# Altium integrated library adafruit.Library.IntLib: 666 symbols (part 5 of 6)
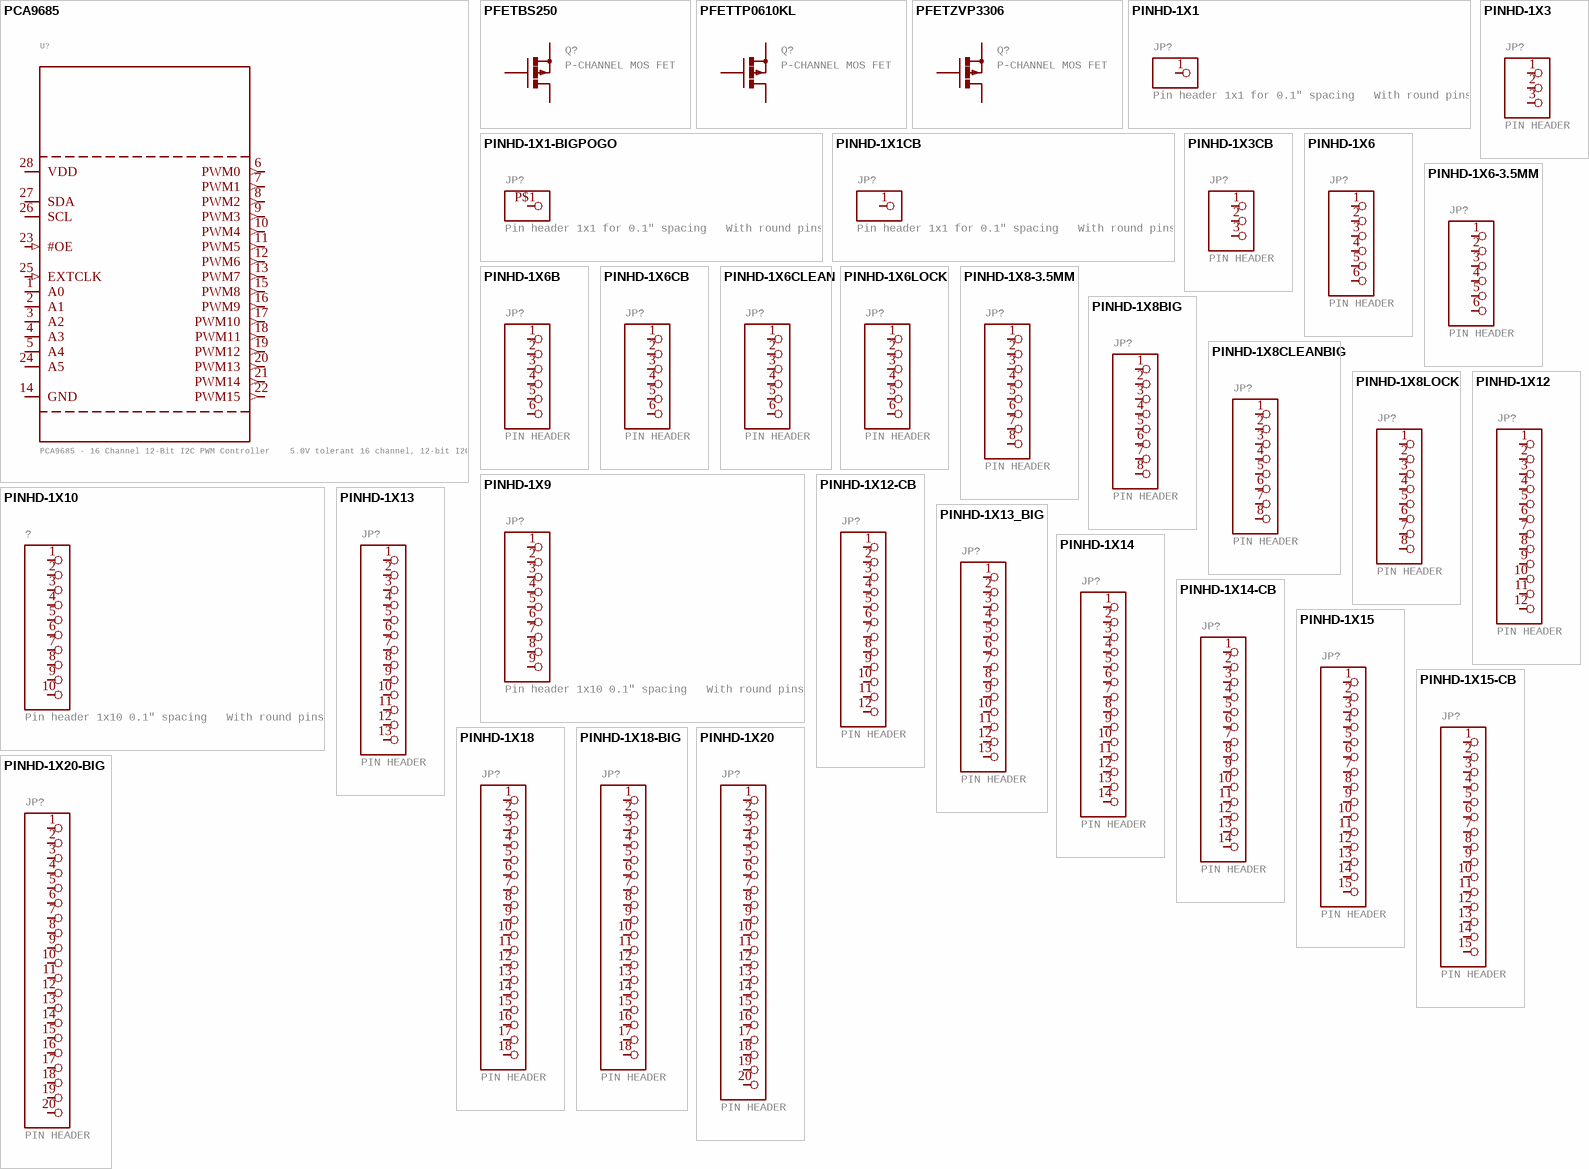
[diagram p31: symbols PCA9685 to PINHD-1X20-BIG]

## PINHD-1X13
designator JP?, comment PIN HEADER
GateName_1: A; SymbolName_1: PINHD13; DeviceSetName: PINHD-1X13; LibraryName: adafruit; Package: 1X13
footprint 1X13
pins: 1, 2, 3, 4, 5, 6, 7, 8, 9, 10, 11, 12, 13

## PINHD-1X13_BIG
designator JP?, comment PIN HEADER
GateName_1: A; SymbolName_1: PINHD13; DeviceName: _BIG; DeviceSetName: PINHD-1X13; LibraryName: adafruit; Package: 1X13-BIG
footprint 1X13-BIG
pins: 1, 2, 3, 4, 5, 6, 7, 8, 9, 10, 11, 12, 13

## PINHD-1X14
designator JP?, comment PIN HEADER
GateName_1: A; SymbolName_1: PINHD14; DeviceSetName: PINHD-1X14; LibraryName: adafruit; Package: 1X14
footprint 1X14
pins: 1, 2, 3, 4, 5, 6, 7, 8, 9, 10, 11, 12, 13, 14

## PINHD-1X14-CB
designator JP?, comment PIN HEADER
GateName_1: A; SymbolName_1: PINHD14; DeviceName: -CB; DeviceSetName: PINHD-1X14; LibraryName: adafruit; Package: 1X14-CB
footprint 1X14-CB
pins: 1, 2, 3, 4, 5, 6, 7, 8, 9, 10, 11, 12, 13, 14

## PINHD-1X15
designator JP?, comment PIN HEADER
GateName_1: A; SymbolName_1: PINHD15; DeviceSetName: PINHD-1X15; LibraryName: adafruit; Package: 1X15
footprint 1X15
pins: 1, 2, 3, 4, 5, 6, 7, 8, 9, 10, 11, 12, 13, 14, 15

## PINHD-1X15-CB
designator JP?, comment PIN HEADER
GateName_1: A; SymbolName_1: PINHD15; DeviceName: -CB; DeviceSetName: PINHD-1X15; LibraryName: adafruit; Package: 1X15-CB
footprint 1X15-CB
pins: 1, 2, 3, 4, 5, 6, 7, 8, 9, 10, 11, 12, 13, 14, 15

## PINHD-1X18
designator JP?, comment PIN HEADER
GateName_1: A; SymbolName_1: PINHD18; DeviceSetName: PINHD-1X18; LibraryName: adafruit; Package: 1X18
footprint 1X18
pins: 1, 2, 3, 4, 5, 6, 7, 8, 9, 10, 11, 12, 13, 14, 15, 16, 17, 18

## PINHD-1X18-BIG
designator JP?, comment PIN HEADER
GateName_1: A; SymbolName_1: PINHD18; DeviceName: -BIG; DeviceSetName: PINHD-1X18; LibraryName: adafruit; Package: 1X18-BIG
footprint 1X18-BIG
pins: 1, 2, 3, 4, 5, 6, 7, 8, 9, 10, 11, 12, 13, 14, 15, 16, 17, 18

## PINHD-1X20
designator JP?, comment PIN HEADER
GateName_1: A; SymbolName_1: PINHD20; DeviceSetName: PINHD-1X20; LibraryName: adafruit; Package: 1X20
footprint 1X20
pins: 1, 2, 3, 4, 5, 6, 7, 8, 9, 10, 11, 12, 13, 14, 15, 16, 17, 18, 19, 20

## PINHD-1X20-BIG
designator JP?, comment PIN HEADER
GateName_1: A; SymbolName_1: PINHD20; DeviceName: -BIG; DeviceSetName: PINHD-1X20; LibraryName: adafruit; Package: 1X20-BIG
footprint 1X20-BIG
pins: 1, 2, 3, 4, 5, 6, 7, 8, 9, 10, 11, 12, 13, 14, 15, 16, 17, 18, 19, 20

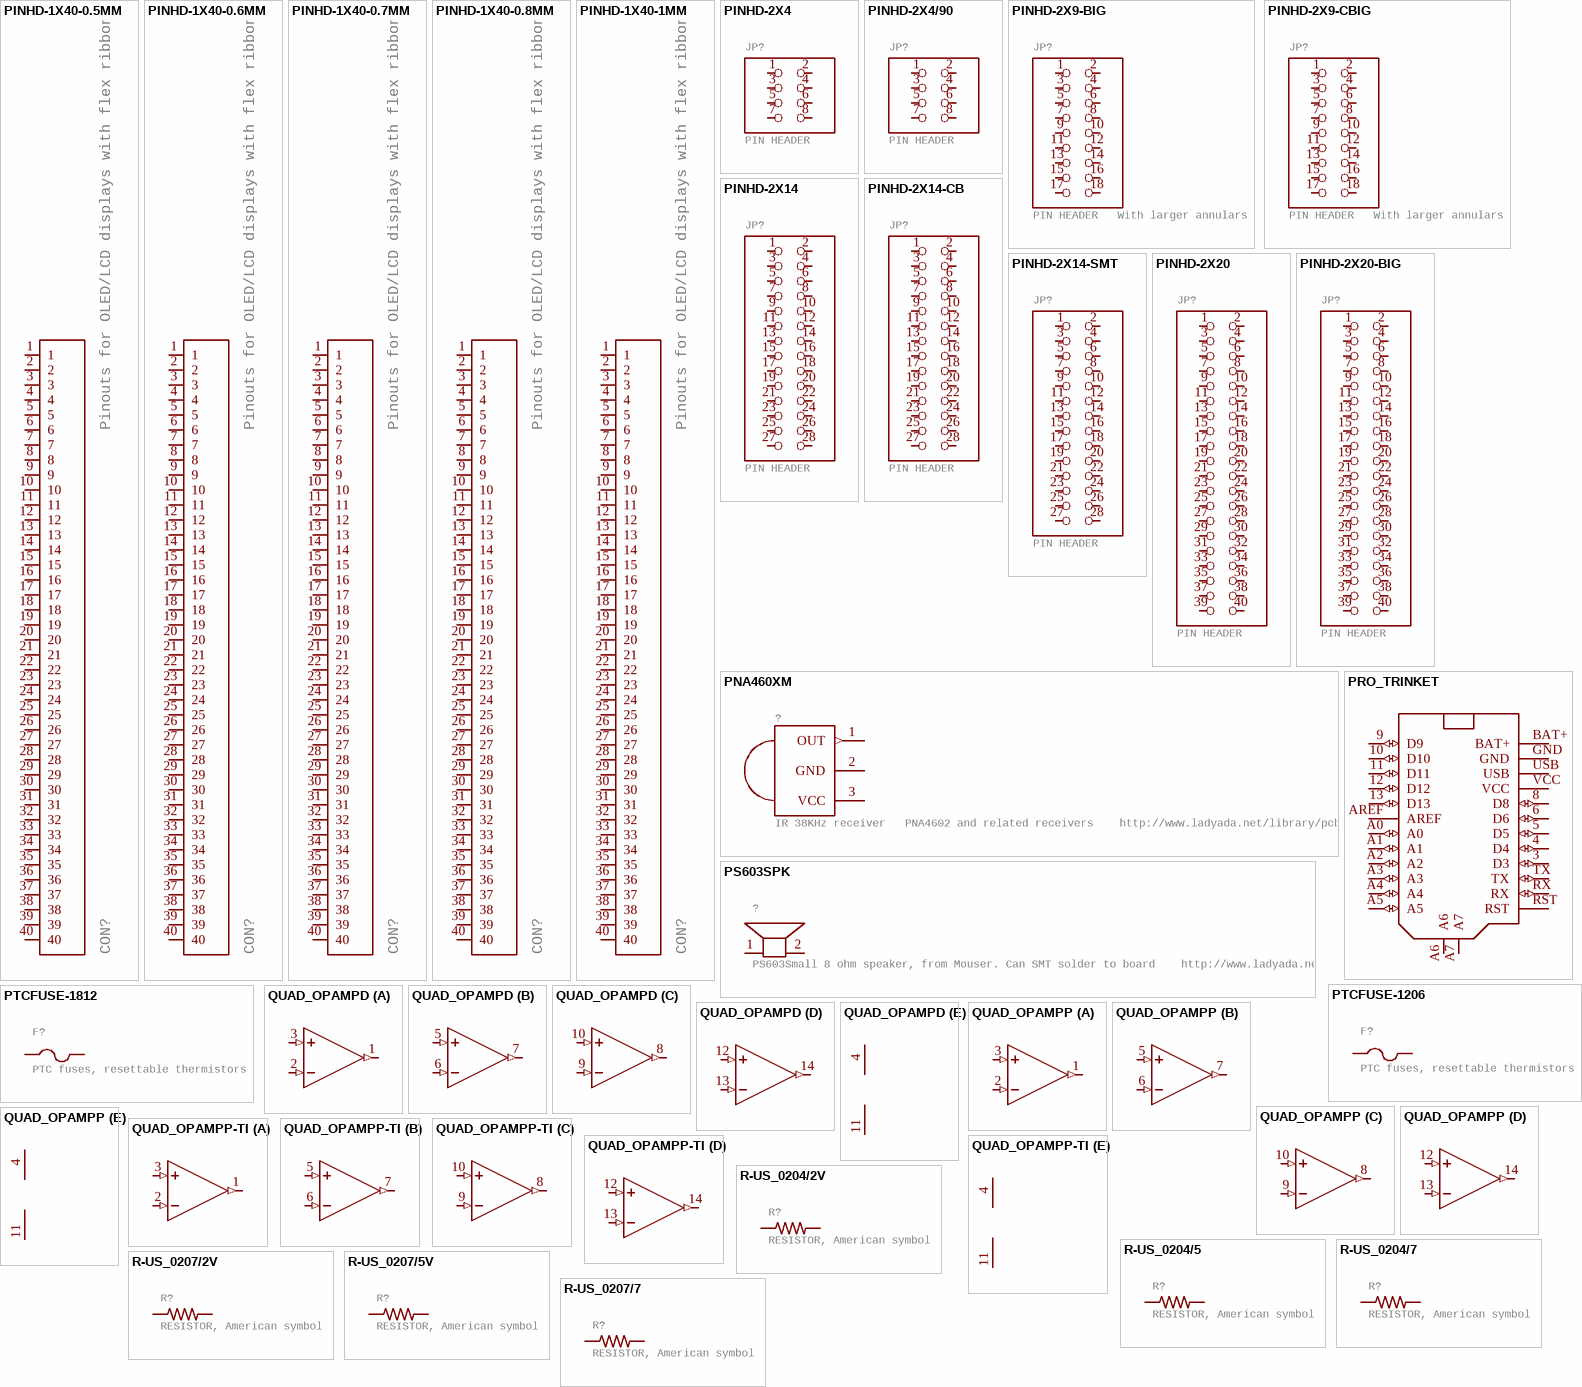
[diagram p21: symbols PINHD-1X40-0.5MM to R-US_0207/7]

## PINHD-1X40-0.5MM
designator CON?, comment Pinouts for OLED/LCD displays with flex ribbons
GateName_1: G$1; SymbolName_1: PINHD-1X40; DeviceName: -0.5MM; LibraryName: adafruit; DeviceSetName: PINHD-1X40; Package: 1X40-0.5MM
footprint 1X40-0.5MM
pins: 1 (io), 2 (io), 3 (io), 4 (io), 5 (io), 6 (io), 7 (io), 8 (io), 9 (io), 10 (io), 11 (io), 12 (io), 13 (io), 14 (io), 15 (io), 16 (io), 17 (io), 18 (io), 19 (io), 20 (io), 21 (io), 22 (io), 23 (io), 24 (io), 25 (io), 26 (io), 27 (io), 28 (io), 29 (io), 30 (io), 31 (io), 32 (io), 33 (io), 34 (io), 35 (io), 36 (io), 37 (io), 38 (io), 39 (io), 40 (io)

## PINHD-1X40-0.6MM
designator CON?, comment Pinouts for OLED/LCD displays with flex ribbons
GateName_1: G$1; SymbolName_1: PINHD-1X40; DeviceName: -0.6MM; LibraryName: adafruit; DeviceSetName: PINHD-1X40; Package: 1X40-0.6MM
footprint 1X40-0.6MM
pins: 1 (io), 2 (io), 3 (io), 4 (io), 5 (io), 6 (io), 7 (io), 8 (io), 9 (io), 10 (io), 11 (io), 12 (io), 13 (io), 14 (io), 15 (io), 16 (io), 17 (io), 18 (io), 19 (io), 20 (io), 21 (io), 22 (io), 23 (io), 24 (io), 25 (io), 26 (io), 27 (io), 28 (io), 29 (io), 30 (io), 31 (io), 32 (io), 33 (io), 34 (io), 35 (io), 36 (io), 37 (io), 38 (io), 39 (io), 40 (io)

## PINHD-1X40-0.7MM
designator CON?, comment Pinouts for OLED/LCD displays with flex ribbons
GateName_1: G$1; SymbolName_1: PINHD-1X40; DeviceName: -0.7MM; LibraryName: adafruit; DeviceSetName: PINHD-1X40; Package: 1X40-0.7MM
footprint 1X40-0.7MM
pins: 1 (io), 2 (io), 3 (io), 4 (io), 5 (io), 6 (io), 7 (io), 8 (io), 9 (io), 10 (io), 11 (io), 12 (io), 13 (io), 14 (io), 15 (io), 16 (io), 17 (io), 18 (io), 19 (io), 20 (io), 21 (io), 22 (io), 23 (io), 24 (io), 25 (io), 26 (io), 27 (io), 28 (io), 29 (io), 30 (io), 31 (io), 32 (io), 33 (io), 34 (io), 35 (io), 36 (io), 37 (io), 38 (io), 39 (io), 40 (io)

## PINHD-1X40-0.8MM
designator CON?, comment Pinouts for OLED/LCD displays with flex ribbons
GateName_1: G$1; SymbolName_1: PINHD-1X40; DeviceName: -0.8MM; LibraryName: adafruit; DeviceSetName: PINHD-1X40; Package: 1X40-0.8MM
footprint 1X40-0.8MM
pins: 1 (io), 2 (io), 3 (io), 4 (io), 5 (io), 6 (io), 7 (io), 8 (io), 9 (io), 10 (io), 11 (io), 12 (io), 13 (io), 14 (io), 15 (io), 16 (io), 17 (io), 18 (io), 19 (io), 20 (io), 21 (io), 22 (io), 23 (io), 24 (io), 25 (io), 26 (io), 27 (io), 28 (io), 29 (io), 30 (io), 31 (io), 32 (io), 33 (io), 34 (io), 35 (io), 36 (io), 37 (io), 38 (io), 39 (io), 40 (io)

## PINHD-1X40-1MM
designator CON?, comment Pinouts for OLED/LCD displays with flex ribbons
GateName_1: G$1; SymbolName_1: PINHD-1X40; DeviceName: -1MM; LibraryName: adafruit; DeviceSetName: PINHD-1X40; Package: 1X40-1MM
footprint 1X40-1MM
pins: 1 (io), 2 (io), 3 (io), 4 (io), 5 (io), 6 (io), 7 (io), 8 (io), 9 (io), 10 (io), 11 (io), 12 (io), 13 (io), 14 (io), 15 (io), 16 (io), 17 (io), 18 (io), 19 (io), 20 (io), 21 (io), 22 (io), 23 (io), 24 (io), 25 (io), 26 (io), 27 (io), 28 (io), 29 (io), 30 (io), 31 (io), 32 (io), 33 (io), 34 (io), 35 (io), 36 (io), 37 (io), 38 (io), 39 (io), 40 (io)

## PINHD-2X4
designator JP?, comment PIN HEADER
GateName_1: A; SymbolName_1: PINH2X4; DeviceSetName: PINHD-2X4; LibraryName: adafruit; Package: 2X04
footprint 2X04
pins: 1, 2, 3, 4, 5, 6, 7, 8

## PINHD-2X4/90
designator JP?, comment PIN HEADER
GateName_1: A; SymbolName_1: PINH2X4; DeviceName: /90; DeviceSetName: PINHD-2X4; LibraryName: adafruit; Package: 2X04/90
footprint 2X04/90
pins: 1, 2, 3, 4, 5, 6, 7, 8

## PINHD-2X9-BIG
designator JP?, comment PIN HEADER   With larger annulars
GateName_1: A; SymbolName_1: PINH2X9; DeviceName: -BIG; DeviceSetName: PINHD-2X9; LibraryName: adafruit; Package: 2X09-BIG
footprint 2X09-BIG
pins: 1, 2, 3, 4, 5, 6, 7, 8, 9, 10, 11, 12, 13, 14, 15, 16, 17, 18

## PINHD-2X9-CBIG
designator JP?, comment PIN HEADER   With larger annulars
GateName_1: A; SymbolName_1: PINH2X9; DeviceName: -CBIG; DeviceSetName: PINHD-2X9; LibraryName: adafruit; Package: 2X09-CLEANBIG
footprint 2X09-CLEANBIG
pins: 1, 2, 3, 4, 5, 6, 7, 8, 9, 10, 11, 12, 13, 14, 15, 16, 17, 18

## PINHD-2X14
designator JP?, comment PIN HEADER
GateName_1: A; SymbolName_1: PINH2X14; DeviceSetName: PINHD-2X14; LibraryName: adafruit; Package: 2X14
footprint 2X14
pins: 1, 2, 3, 4, 5, 6, 7, 8, 9, 10, 11, 12, 13, 14, 15, 16, 17, 18, 19, 20, 21, 22, 23, 24, 25, 26, 27, 28

## PINHD-2X14-CB
designator JP?, comment PIN HEADER
GateName_1: A; SymbolName_1: PINH2X14; DeviceName: -CB; DeviceSetName: PINHD-2X14; LibraryName: adafruit; Package: 2X14-CLEANBIG
footprint 2X14-CLEANBIG
pins: 1, 2, 3, 4, 5, 6, 7, 8, 9, 10, 11, 12, 13, 14, 15, 16, 17, 18, 19, 20, 21, 22, 23, 24, 25, 26, 27, 28

## PINHD-2X14-SMT
designator JP?, comment PIN HEADER
GateName_1: A; SymbolName_1: PINH2X14; DeviceName: -SMT; DeviceSetName: PINHD-2X14; LibraryName: adafruit; Package: 2X14-SMT
footprint 2X14-SMT
pins: 1, 2, 3, 4, 5, 6, 7, 8, 9, 10, 11, 12, 13, 14, 15, 16, 17, 18, 19, 20, 21, 22, 23, 24, 25, 26, 27, 28

## PINHD-2X20
designator JP?, comment PIN HEADER
GateName_1: A; SymbolName_1: PINH2X20; DeviceSetName: PINHD-2X20; LibraryName: adafruit; Package: 2X20
footprint 2X20
pins: 1, 2, 3, 4, 5, 6, 7, 8, 9, 10, 11, 12, 13, 14, 15, 16, 17, 18, 19, 20, 21, 22, 23, 24, 25, 26, 27, 28, 29, 30, 31, 32, 33, 34, 35, 36, 37, 38, 39, 40

## PINHD-2X20-BIG
designator JP?, comment PIN HEADER
GateName_1: A; SymbolName_1: PINH2X20; DeviceName: -BIG; DeviceSetName: PINHD-2X20; LibraryName: adafruit; Package: 2X20-BIG
footprint 2X20-BIG
pins: 1, 2, 3, 4, 5, 6, 7, 8, 9, 10, 11, 12, 13, 14, 15, 16, 17, 18, 19, 20, 21, 22, 23, 24, 25, 26, 27, 28, 29, 30, 31, 32, 33, 34, 35, 36, 37, 38, 39, 40

## PNA460XM
designator ?, comment IR 38KHz receiver   PNA4602 and related receivers    http://www.ladyada.net/library/pcb/eaglelibrary.html
GateName_1: G$1; SymbolName_1: PNA460XM; LibraryName: adafruit; DeviceSetName: PNA460XM; Package: PNA460XM
footprint PNA460XM
pins: 1 OUT (out), 2 GND (power), 3 VCC (power)

## PRO_TRINKET
designator ?
GateName_1: G$1; SymbolName_1: PROTRINKET; DeviceSetName: PRO_TRINKET; LibraryName: adafruit; Package: PROTRINKET
footprint PROTRINKET
pins: 3 D3 (io), 4 D4 (io), 5 D5 (io), 6 D6 (io), 8 D8 (io), 9 D9 (io), 10 D10 (io), 11 D11 (io), 12 D12 (io), 13 D13 (io), A0 (io), A1 (io), A2 (io), A3 (io), A4 (io), A5 (io), A6, A7, AREF, BAT+ (power), GND (power), RST, RX (io), TX (io), USB (power), VCC (power)

## PS603SPK
designator ?, comment PS603Small 8 ohm speaker, from Mouser. Can SMT solder to board    http://www.ladyada.net/library/pcb/eaglelibrary.html
GateName_1: G$1; SymbolName_1: SPK; DeviceSetName: PS603; DeviceName: SPK; LibraryName: adafruit; Package: PS603
footprint PS603
pins: 1, 2

## PTCFUSE-1206
designator F?, comment PTC fuses, resettable thermistors
GateName_1: G$1; SymbolName_1: FUSE; DeviceName: -1206; LibraryName: adafruit; DeviceSetName: PTCFUSE; Package: R1206
footprint R1206
pins: 1, 2

## PTCFUSE-1812
designator F?, comment PTC fuses, resettable thermistors
GateName_1: G$1; SymbolName_1: FUSE; DeviceName: -1812; LibraryName: adafruit; DeviceSetName: PTCFUSE; Package: 1812
footprint 1812
pins: 1, 2

## QUAD_OPAMPD
designator IC?, comment OP AMPStandard quad package  (value not drawn)
GateName_1: A; SymbolName_1: OPAMP; GateName_2: B; GateName_3: C; GateName_4: D; GateName_5: P; SymbolName_5: PWR+-; DeviceSetName: QUAD_OPAMP; SymbolName_2: OPAMP; SymbolName_3: OPAMP; SymbolName_4: OPAMP; DeviceName: D; LibraryName: adafruit; Package: SO14
footprint SO14
part A pins: 1 OUT (out), 2 -IN (in), 3 +IN (in)
part B pins: 5 +IN (in), 6 -IN (in), 7 OUT (out)
part C pins: 8 OUT (out), 9 -IN (in), 10 +IN (in)
part D pins: 12 +IN (in), 13 -IN (in), 14 OUT (out)
part E pins: 4 V+ (power), 11 V- (power)

## QUAD_OPAMPP
designator IC?, comment OP AMPStandard quad package  (value not drawn)
GateName_1: A; SymbolName_1: OPAMP; GateName_2: B; GateName_3: C; GateName_4: D; GateName_5: P; SymbolName_5: PWR+-; DeviceSetName: QUAD_OPAMP; SymbolName_2: OPAMP; SymbolName_3: OPAMP; SymbolName_4: OPAMP; DeviceName: P; LibraryName: adafruit; Package: DIL14
footprint DIL14
part A pins: 1 OUT (out), 2 -IN (in), 3 +IN (in)
part B pins: 5 +IN (in), 6 -IN (in), 7 OUT (out)
part C pins: 8 OUT (out), 9 -IN (in), 10 +IN (in)
part D pins: 12 +IN (in), 13 -IN (in), 14 OUT (out)
part E pins: 4 V+ (power), 11 V- (power)

## QUAD_OPAMPP-TI
designator IC?, comment OP AMPStandard quad package  (value not drawn)
GateName_1: A; SymbolName_1: OPAMP; GateName_2: B; GateName_3: C; GateName_4: D; GateName_5: P; SymbolName_5: PWR+-; DeviceName: P-TI; DeviceSetName: QUAD_OPAMP; SymbolName_2: OPAMP; SymbolName_3: OPAMP; SymbolName_4: OPAMP; LibraryName: adafruit; Package: DIL14-LARDO
footprint DIL14-LARDO
part A pins: 1 OUT (out), 2 -IN (in), 3 +IN (in)
part B pins: 5 +IN (in), 6 -IN (in), 7 OUT (out)
part C pins: 8 OUT (out), 9 -IN (in), 10 +IN (in)
part D pins: 12 +IN (in), 13 -IN (in), 14 OUT (out)
part E pins: 4 V+ (power), 11 V- (power)

## R-US_0204/2V
designator R?, comment RESISTOR, American symbol
GateName_1: G$1; SymbolName_1: R-US; DeviceName: 0204/2V; DeviceSetName: R-US_; LibraryName: adafruit; Package: 0204V
footprint 0204V
pins: 1, 2

## R-US_0204/5
designator R?, comment RESISTOR, American symbol
GateName_1: G$1; SymbolName_1: R-US; DeviceName: 0204/5; DeviceSetName: R-US_; LibraryName: adafruit; Package: 0204/5
footprint 0204/5
pins: 1, 2

## R-US_0204/7
designator R?, comment RESISTOR, American symbol
GateName_1: G$1; SymbolName_1: R-US; DeviceName: 0204/7; DeviceSetName: R-US_; LibraryName: adafruit; Package: 0204/7
footprint 0204/7
pins: 1, 2

## R-US_0207/2V
designator R?, comment RESISTOR, American symbol
GateName_1: G$1; SymbolName_1: R-US; DeviceName: 0207/2V; DeviceSetName: R-US_; LibraryName: adafruit; Package: 0207/2V
footprint 0207/2V
pins: 1, 2

## R-US_0207/5V
designator R?, comment RESISTOR, American symbol
GateName_1: G$1; SymbolName_1: R-US; DeviceName: 0207/5V; DeviceSetName: R-US_; LibraryName: adafruit; Package: 0207/5V
footprint 0207/5V
pins: 1, 2

## R-US_0207/7
designator R?, comment RESISTOR, American symbol
GateName_1: G$1; SymbolName_1: R-US; DeviceName: 0207/7; DeviceSetName: R-US_; LibraryName: adafruit; Package: 0207/7
footprint 0207/7
pins: 1, 2

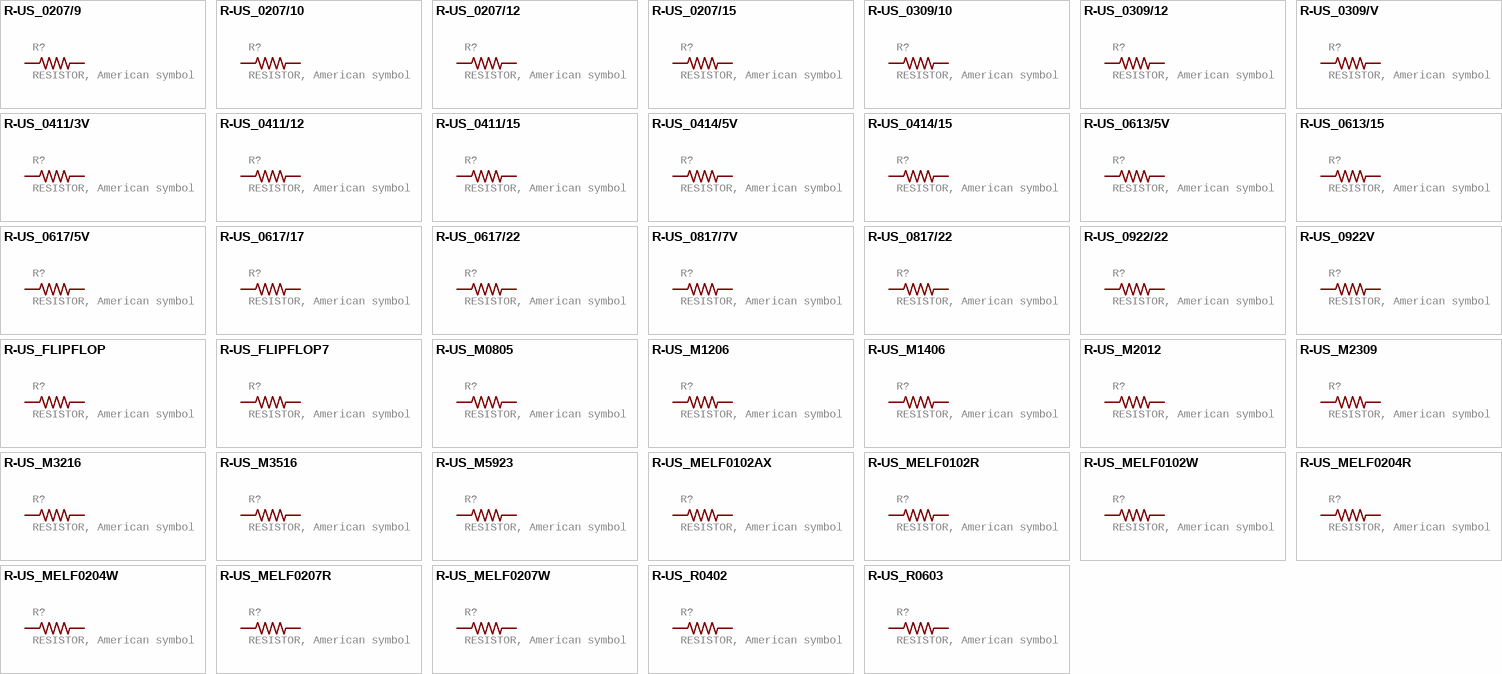
[diagram p22: symbols R-US_0207/9 to R-US_R0603]

## R-US_0207/9
designator R?, comment RESISTOR, American symbol
GateName_1: G$1; SymbolName_1: R-US; DeviceName: 0207/9; DeviceSetName: R-US_; LibraryName: adafruit; Package: 0207/9
footprint 0207/9
pins: 1, 2

## R-US_0207/10
designator R?, comment RESISTOR, American symbol
GateName_1: G$1; SymbolName_1: R-US; DeviceName: 0207/10; DeviceSetName: R-US_; LibraryName: adafruit; Package: 0207/10
footprint 0207/10
pins: 1, 2

## R-US_0207/12
designator R?, comment RESISTOR, American symbol
GateName_1: G$1; SymbolName_1: R-US; DeviceName: 0207/12; DeviceSetName: R-US_; LibraryName: adafruit; Package: 0207/12
footprint 0207/12
pins: 1, 2

## R-US_0207/15
designator R?, comment RESISTOR, American symbol
GateName_1: G$1; SymbolName_1: R-US; DeviceName: 0207/15; DeviceSetName: R-US_; LibraryName: adafruit; Package: 0207/15
footprint 0207/15
pins: 1, 2

## R-US_0309/10
designator R?, comment RESISTOR, American symbol
GateName_1: G$1; SymbolName_1: R-US; DeviceName: 0309/10; DeviceSetName: R-US_; LibraryName: adafruit; Package: 0309/10
footprint 0309/10
pins: 1, 2

## R-US_0309/12
designator R?, comment RESISTOR, American symbol
GateName_1: G$1; SymbolName_1: R-US; DeviceName: 0309/12; DeviceSetName: R-US_; LibraryName: adafruit; Package: 0309/12
footprint 0309/12
pins: 1, 2

## R-US_0309/V
designator R?, comment RESISTOR, American symbol
GateName_1: G$1; SymbolName_1: R-US; DeviceName: 0309/V; DeviceSetName: R-US_; LibraryName: adafruit; Package: 0309V
footprint 0309V
pins: 1, 2

## R-US_0411/3V
designator R?, comment RESISTOR, American symbol
GateName_1: G$1; SymbolName_1: R-US; DeviceName: 0411/3V; DeviceSetName: R-US_; LibraryName: adafruit; Package: 0411V
footprint 0411V
pins: 1, 2

## R-US_0411/12
designator R?, comment RESISTOR, American symbol
GateName_1: G$1; SymbolName_1: R-US; DeviceName: 0411/12; DeviceSetName: R-US_; LibraryName: adafruit; Package: 0411/12
footprint 0411/12
pins: 1, 2

## R-US_0411/15
designator R?, comment RESISTOR, American symbol
GateName_1: G$1; SymbolName_1: R-US; DeviceName: 0411/15; DeviceSetName: R-US_; LibraryName: adafruit; Package: 0411/15
footprint 0411/15
pins: 1, 2

## R-US_0414/5V
designator R?, comment RESISTOR, American symbol
GateName_1: G$1; SymbolName_1: R-US; DeviceName: 0414/5V; DeviceSetName: R-US_; LibraryName: adafruit; Package: 0414V
footprint 0414V
pins: 1, 2

## R-US_0414/15
designator R?, comment RESISTOR, American symbol
GateName_1: G$1; SymbolName_1: R-US; DeviceName: 0414/15; DeviceSetName: R-US_; LibraryName: adafruit; Package: 0414/15
footprint 0414/15
pins: 1, 2

## R-US_0613/5V
designator R?, comment RESISTOR, American symbol
GateName_1: G$1; SymbolName_1: R-US; DeviceName: 0613/5V; DeviceSetName: R-US_; LibraryName: adafruit; Package: P0613V
footprint P0613V
pins: 1, 2

## R-US_0613/15
designator R?, comment RESISTOR, American symbol
GateName_1: G$1; SymbolName_1: R-US; DeviceName: 0613/15; DeviceSetName: R-US_; LibraryName: adafruit; Package: P0613/15
footprint P0613/15
pins: 1, 2

## R-US_0617/5V
designator R?, comment RESISTOR, American symbol
GateName_1: G$1; SymbolName_1: R-US; DeviceName: 0617/5V; DeviceSetName: R-US_; LibraryName: adafruit; Package: 0617V
footprint 0617V
pins: 1, 2

## R-US_0617/17
designator R?, comment RESISTOR, American symbol
GateName_1: G$1; SymbolName_1: R-US; DeviceName: 0617/17; DeviceSetName: R-US_; LibraryName: adafruit; Package: 0617/17
footprint 0617/17
pins: 1, 2

## R-US_0617/22
designator R?, comment RESISTOR, American symbol
GateName_1: G$1; SymbolName_1: R-US; DeviceName: 0617/22; DeviceSetName: R-US_; LibraryName: adafruit; Package: 0617/22
footprint 0617/22
pins: 1, 2

## R-US_0817/7V
designator R?, comment RESISTOR, American symbol
GateName_1: G$1; SymbolName_1: R-US; DeviceName: 0817/7V; DeviceSetName: R-US_; LibraryName: adafruit; Package: P0817V
footprint P0817V
pins: 1, 2

## R-US_0817/22
designator R?, comment RESISTOR, American symbol
GateName_1: G$1; SymbolName_1: R-US; DeviceName: 0817/22; DeviceSetName: R-US_; LibraryName: adafruit; Package: P0817/22
footprint P0817/22
pins: 1, 2

## R-US_0922/22
designator R?, comment RESISTOR, American symbol
GateName_1: G$1; SymbolName_1: R-US; DeviceName: 0922/22; DeviceSetName: R-US_; LibraryName: adafruit; Package: 0922/22
footprint 0922/22
pins: 1, 2

## R-US_0922V
designator R?, comment RESISTOR, American symbol
GateName_1: G$1; SymbolName_1: R-US; DeviceName: 0922V; DeviceSetName: R-US_; LibraryName: adafruit; Package: 0922V
footprint 0922V
pins: 1, 2

## R-US_FLIPFLOP
designator R?, comment RESISTOR, American symbol
GateName_1: G$1; SymbolName_1: R-US; DeviceName: FLIPFLOP; DeviceSetName: R-US_; LibraryName: adafruit; Package: 0805-THM
footprint 0805-THM
pins: 1, 2

## R-US_FLIPFLOP7
designator R?, comment RESISTOR, American symbol
GateName_1: G$1; SymbolName_1: R-US; DeviceName: FLIPFLOP7; DeviceSetName: R-US_; LibraryName: adafruit; Package: 0805-THM-7
footprint 0805-THM-7
pins: 1, 2

## R-US_M0805
designator R?, comment RESISTOR, American symbol
GateName_1: G$1; SymbolName_1: R-US; DeviceName: M0805; DeviceSetName: R-US_; LibraryName: adafruit; Package: M0805
footprint M0805
pins: 1, 2

## R-US_M1206
designator R?, comment RESISTOR, American symbol
GateName_1: G$1; SymbolName_1: R-US; DeviceName: M1206; DeviceSetName: R-US_; LibraryName: adafruit; Package: M1206
footprint M1206
pins: 1, 2

## R-US_M1406
designator R?, comment RESISTOR, American symbol
GateName_1: G$1; SymbolName_1: R-US; DeviceName: M1406; DeviceSetName: R-US_; LibraryName: adafruit; Package: M1406
footprint M1406
pins: 1, 2

## R-US_M2012
designator R?, comment RESISTOR, American symbol
GateName_1: G$1; SymbolName_1: R-US; DeviceName: M2012; DeviceSetName: R-US_; LibraryName: adafruit; Package: M2012
footprint M2012
pins: 1, 2

## R-US_M2309
designator R?, comment RESISTOR, American symbol
GateName_1: G$1; SymbolName_1: R-US; DeviceName: M2309; DeviceSetName: R-US_; LibraryName: adafruit; Package: M2309
footprint M2309
pins: 1, 2

## R-US_M3216
designator R?, comment RESISTOR, American symbol
GateName_1: G$1; SymbolName_1: R-US; DeviceName: M3216; DeviceSetName: R-US_; LibraryName: adafruit; Package: M3216
footprint M3216
pins: 1, 2

## R-US_M3516
designator R?, comment RESISTOR, American symbol
GateName_1: G$1; SymbolName_1: R-US; DeviceName: M3516; DeviceSetName: R-US_; LibraryName: adafruit; Package: M3516
footprint M3516
pins: 1, 2

## R-US_M5923
designator R?, comment RESISTOR, American symbol
GateName_1: G$1; SymbolName_1: R-US; DeviceName: M5923; DeviceSetName: R-US_; LibraryName: adafruit; Package: M5923
footprint M5923
pins: 1, 2

## R-US_MELF0102AX
designator R?, comment RESISTOR, American symbol
GateName_1: G$1; SymbolName_1: R-US; DeviceName: MELF0102AX; DeviceSetName: R-US_; LibraryName: adafruit; Package: MINI_MELF-0102AX
footprint MINI_MELF-0102AX
pins: 1, 2

## R-US_MELF0102R
designator R?, comment RESISTOR, American symbol
GateName_1: G$1; SymbolName_1: R-US; DeviceName: MELF0102R; DeviceSetName: R-US_; LibraryName: adafruit; Package: MINI_MELF-0102R
footprint MINI_MELF-0102R
pins: 1, 2

## R-US_MELF0102W
designator R?, comment RESISTOR, American symbol
GateName_1: G$1; SymbolName_1: R-US; DeviceName: MELF0102W; DeviceSetName: R-US_; LibraryName: adafruit; Package: MINI_MELF-0102W
footprint MINI_MELF-0102W
pins: 1, 2

## R-US_MELF0204R
designator R?, comment RESISTOR, American symbol
GateName_1: G$1; SymbolName_1: R-US; DeviceName: MELF0204R; DeviceSetName: R-US_; LibraryName: adafruit; Package: MINI_MELF-0204R
footprint MINI_MELF-0204R
pins: 1, 2

## R-US_MELF0204W
designator R?, comment RESISTOR, American symbol
GateName_1: G$1; SymbolName_1: R-US; DeviceName: MELF0204W; DeviceSetName: R-US_; LibraryName: adafruit; Package: MINI_MELF-0204W
footprint MINI_MELF-0204W
pins: 1, 2

## R-US_MELF0207R
designator R?, comment RESISTOR, American symbol
GateName_1: G$1; SymbolName_1: R-US; DeviceName: MELF0207R; DeviceSetName: R-US_; LibraryName: adafruit; Package: MINI_MELF-0207R
footprint MINI_MELF-0207R
pins: 1, 2

## R-US_MELF0207W
designator R?, comment RESISTOR, American symbol
GateName_1: G$1; SymbolName_1: R-US; DeviceName: MELF0207W; DeviceSetName: R-US_; LibraryName: adafruit; Package: MINI_MELF-0207W
footprint MINI_MELF-0207W
pins: 1, 2

## R-US_R0402
designator R?, comment RESISTOR, American symbol
GateName_1: G$1; SymbolName_1: R-US; DeviceName: R0402; DeviceSetName: R-US_; LibraryName: adafruit; Package: R0402
footprint R0402
pins: 1, 2

## R-US_R0603
designator R?, comment RESISTOR, American symbol
GateName_1: G$1; SymbolName_1: R-US; DeviceName: R0603; DeviceSetName: R-US_; LibraryName: adafruit; Package: R0603
footprint R0603
pins: 1, 2

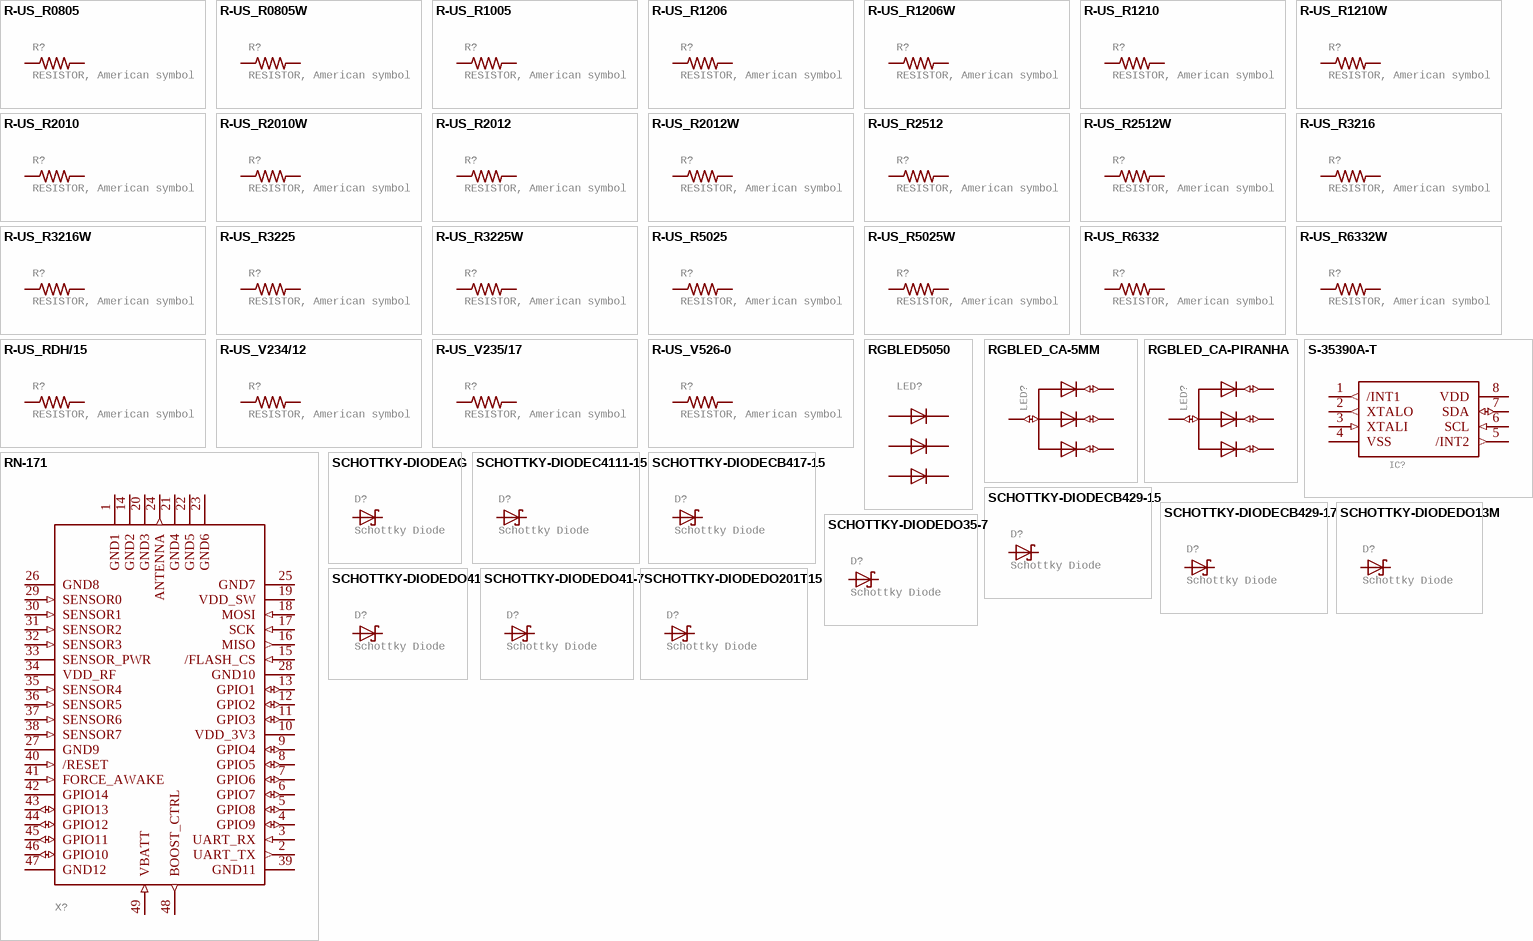
[diagram p23: symbols R-US_R0805 to SCHOTTKY-DIODEDO201T15]

## R-US_R0805
designator R?, comment RESISTOR, American symbol
GateName_1: G$1; SymbolName_1: R-US; DeviceName: R0805; DeviceSetName: R-US_; LibraryName: adafruit; Package: R0805
footprint R0805
pins: 1, 2

## R-US_R0805W
designator R?, comment RESISTOR, American symbol
GateName_1: G$1; SymbolName_1: R-US; DeviceName: R0805W; DeviceSetName: R-US_; LibraryName: adafruit; Package: R0805W
footprint R0805W
pins: 1, 2

## R-US_R1005
designator R?, comment RESISTOR, American symbol
GateName_1: G$1; SymbolName_1: R-US; DeviceName: R1005; DeviceSetName: R-US_; LibraryName: adafruit; Package: R1005
footprint R1005
pins: 1, 2

## R-US_R1206
designator R?, comment RESISTOR, American symbol
GateName_1: G$1; SymbolName_1: R-US; DeviceName: R1206; DeviceSetName: R-US_; LibraryName: adafruit; Package: R1206
footprint R1206
pins: 1, 2

## R-US_R1206W
designator R?, comment RESISTOR, American symbol
GateName_1: G$1; SymbolName_1: R-US; DeviceName: R1206W; DeviceSetName: R-US_; LibraryName: adafruit; Package: R1206W
footprint R1206W
pins: 1, 2

## R-US_R1210
designator R?, comment RESISTOR, American symbol
GateName_1: G$1; SymbolName_1: R-US; DeviceName: R1210; DeviceSetName: R-US_; LibraryName: adafruit; Package: R1210
footprint R1210
pins: 1, 2

## R-US_R1210W
designator R?, comment RESISTOR, American symbol
GateName_1: G$1; SymbolName_1: R-US; DeviceName: R1210W; DeviceSetName: R-US_; LibraryName: adafruit; Package: R1210W
footprint R1210W
pins: 1, 2

## R-US_R2010
designator R?, comment RESISTOR, American symbol
GateName_1: G$1; SymbolName_1: R-US; DeviceName: R2010; DeviceSetName: R-US_; LibraryName: adafruit; Package: R2010
footprint R2010
pins: 1, 2

## R-US_R2010W
designator R?, comment RESISTOR, American symbol
GateName_1: G$1; SymbolName_1: R-US; DeviceName: R2010W; DeviceSetName: R-US_; LibraryName: adafruit; Package: R2010W
footprint R2010W
pins: 1, 2

## R-US_R2012
designator R?, comment RESISTOR, American symbol
GateName_1: G$1; SymbolName_1: R-US; DeviceName: R2012; DeviceSetName: R-US_; LibraryName: adafruit; Package: R2012
footprint R2012
pins: 1, 2

## R-US_R2012W
designator R?, comment RESISTOR, American symbol
GateName_1: G$1; SymbolName_1: R-US; DeviceName: R2012W; DeviceSetName: R-US_; LibraryName: adafruit; Package: R2012W
footprint R2012W
pins: 1, 2

## R-US_R2512
designator R?, comment RESISTOR, American symbol
GateName_1: G$1; SymbolName_1: R-US; DeviceName: R2512; DeviceSetName: R-US_; LibraryName: adafruit; Package: R2512
footprint R2512
pins: 1, 2

## R-US_R2512W
designator R?, comment RESISTOR, American symbol
GateName_1: G$1; SymbolName_1: R-US; DeviceName: R2512W; DeviceSetName: R-US_; LibraryName: adafruit; Package: R2512W
footprint R2512W
pins: 1, 2

## R-US_R3216
designator R?, comment RESISTOR, American symbol
GateName_1: G$1; SymbolName_1: R-US; DeviceName: R3216; DeviceSetName: R-US_; LibraryName: adafruit; Package: R3216
footprint R3216
pins: 1, 2

## R-US_R3216W
designator R?, comment RESISTOR, American symbol
GateName_1: G$1; SymbolName_1: R-US; DeviceName: R3216W; DeviceSetName: R-US_; LibraryName: adafruit; Package: R3216W
footprint R3216W
pins: 1, 2

## R-US_R3225
designator R?, comment RESISTOR, American symbol
GateName_1: G$1; SymbolName_1: R-US; DeviceName: R3225; DeviceSetName: R-US_; LibraryName: adafruit; Package: R3225
footprint R3225
pins: 1, 2

## R-US_R3225W
designator R?, comment RESISTOR, American symbol
GateName_1: G$1; SymbolName_1: R-US; DeviceName: R3225W; DeviceSetName: R-US_; LibraryName: adafruit; Package: R3225W
footprint R3225W
pins: 1, 2

## R-US_R5025
designator R?, comment RESISTOR, American symbol
GateName_1: G$1; SymbolName_1: R-US; DeviceName: R5025; DeviceSetName: R-US_; LibraryName: adafruit; Package: R5025
footprint R5025
pins: 1, 2

## R-US_R5025W
designator R?, comment RESISTOR, American symbol
GateName_1: G$1; SymbolName_1: R-US; DeviceName: R5025W; DeviceSetName: R-US_; LibraryName: adafruit; Package: R5025W
footprint R5025W
pins: 1, 2

## R-US_R6332
designator R?, comment RESISTOR, American symbol
GateName_1: G$1; SymbolName_1: R-US; DeviceName: R6332; DeviceSetName: R-US_; LibraryName: adafruit; Package: R6332
footprint R6332
pins: 1, 2

## R-US_R6332W
designator R?, comment RESISTOR, American symbol
GateName_1: G$1; SymbolName_1: R-US; DeviceName: R6332W; DeviceSetName: R-US_; LibraryName: adafruit; Package: R6332W
footprint R6332W
pins: 1, 2

## R-US_RDH/15
designator R?, comment RESISTOR, American symbol
GateName_1: G$1; SymbolName_1: R-US; DeviceName: RDH/15; DeviceSetName: R-US_; LibraryName: adafruit; Package: RDH/15
footprint RDH/15
pins: 1, 2

## R-US_V234/12
designator R?, comment RESISTOR, American symbol
GateName_1: G$1; SymbolName_1: R-US; DeviceName: V234/12; DeviceSetName: R-US_; LibraryName: adafruit; Package: V234/12
footprint V234/12
pins: 1, 2

## R-US_V235/17
designator R?, comment RESISTOR, American symbol
GateName_1: G$1; SymbolName_1: R-US; DeviceName: V235/17; DeviceSetName: R-US_; LibraryName: adafruit; Package: V235/17
footprint V235/17
pins: 1, 2

## R-US_V526-0
designator R?, comment RESISTOR, American symbol
GateName_1: G$1; SymbolName_1: R-US; DeviceName: V526-0; DeviceSetName: R-US_; LibraryName: adafruit; Package: V526-0
footprint V526-0
pins: 1, 2

## RGBLED5050
designator LED?, comment For 5050 RGB LEDs, the order of the LEDs may vary from one manufacturer to another!  (value not drawn)
GateName_1: G$1; SymbolName_1: RGBLED; DeviceName: 5050; LibraryName: adafruit; DeviceSetName: RGBLED; Package: RGBLED5050
footprint RGBLED5050
pins: 1 GREEN_A (io), 2 RED_A (io), 3 BLUE_A (io), 4 BLUE_C (io), 5 RED_C (io), 6 GREEN_C (io)

## RGBLED_CA-5MM
designator LED?, comment RGB LED, common-anode   5MM Staggered pins   5mm Piranha package    http://www.ladyada.net/library/pcb/eaglelibrary.html  (value not drawn)
GateName_1: G$1; SymbolName_1: RGBLED_CA; DeviceName: -5MM; LibraryName: adafruit; DeviceSetName: RGBLED_CA; Package: LED5MMRGB
footprint LED5MMRGB
pins: 1 RED (io), 2 VCC (io), 3 GREEN (io), 4 BLUE (io)

## RGBLED_CA-PIRANHA
designator LED?, comment RGB LED, common-anode   5MM Staggered pins   5mm Piranha package    http://www.ladyada.net/library/pcb/eaglelibrary.html  (value not drawn)
GateName_1: G$1; SymbolName_1: RGBLED_CA; DeviceName: -PIRANHA; LibraryName: adafruit; DeviceSetName: RGBLED_CA; Package: PIRANHA5MM
footprint PIRANHA5MM
pins: 1 BLUE (io), 2 RED (io), 3 GREEN (io), 4 VCC (io)

## RN-171
designator X?
GateName_1: G$1; SymbolName_1: RN-171; LibraryName: adafruit; DeviceSetName: RN-171; Package: RN-171
footprint RN-171
pins: 1 GND1 (power), 2 UART_TX (out), 3 UART_RX (in), 4 GPIO9 (io), 5 GPIO8 (io), 6 GPIO7 (io), 7 GPIO6 (io), 8 GPIO5 (io), 9 GPIO4 (io), 10 VDD_3V3 (power), 11 GPIO3 (io), 12 GPIO2 (io), 13 GPIO1 (io), 14 GND2 (power), 15 /FLASH_CS (in), 16 MISO (out), 17 SCK (in), 18 MOSI (in), 19 VDD_SW, 20 GND3 (power), 21 GND4 (power), 22 GND5 (power), 23 GND6 (power), 24 ANTENNA (out), 25 GND7 (power), 26 GND8 (power), 27 GND9 (power), 28 GND10 (power), 29 SENSOR0 (in), 30 SENSOR1 (in), 31 SENSOR2 (in), 32 SENSOR3 (in), 33 SENSOR_PWR (power), 34 VDD_RF (power), 35 SENSOR4 (in), 36 SENSOR5 (in), 37 SENSOR6 (in), 38 SENSOR7 (in), 39 GND11 (power), 40 /RESET (in), 41 FORCE_AWAKE (in), 42 GPIO14, 43 GPIO13 (io), 44 GPIO12 (io), 45 GPIO11 (io), 46 GPIO10 (io), 47 GND12 (power), 48 BOOST_CTRL (out), 49 VBATT (in)

## S-35390A-T
designator IC?, comment S-35390A  2-WIRE REAL-TIME CLOCK   The S-35390A is a CMOS 2-wire real-time clock IC which operates with the very low current consumption and in the wide range of operation voltage. The operation voltage is 1.3 V to 5.5 V so that this IC can be used for various power supplies from main supply to backup battery. Due to the 0.25 ?A current consumption and wide range of power supply voltage at time keeping, this IC makes the battery life longer. In the system which operates with a backup battery, the included free registers can be used as the function for user?s backup memory  (value not drawn)
GateName_1: G$1; DeviceName: -T; SymbolName_1: S-35390A; LibraryName: adafruit; DeviceSetName: S-35390A; Package: TSSOP-8
footprint TSSOP-8
pins: 1 /INT1 (out), 2 XTALO (out), 3 XTALI (in), 4 VSS (power), 5 /INT2 (out), 6 SCL (in), 7 SDA (io), 8 VDD (power)

## SCHOTTKY-DIODEAG
designator D?, comment Schottky Diode
GateName_1: G$1; DeviceName: AG; DeviceSetName: SCHOTTKY-DIODE; SymbolName_1: SCHOTTKY; LibraryName: adafruit; Package: AG
footprint AG
pins: A, C

## SCHOTTKY-DIODEC4111-15
designator D?, comment Schottky Diode
GateName_1: G$1; DeviceName: C4111-15; DeviceSetName: SCHOTTKY-DIODE; SymbolName_1: SCHOTTKY; LibraryName: adafruit; Package: C4111-15
footprint C4111-15
pins: A, C

## SCHOTTKY-DIODECB417-15
designator D?, comment Schottky Diode
GateName_1: G$1; DeviceName: CB417-15; DeviceSetName: SCHOTTKY-DIODE; SymbolName_1: SCHOTTKY; LibraryName: adafruit; Package: CB417-15
footprint CB417-15
pins: A, C

## SCHOTTKY-DIODECB429-15
designator D?, comment Schottky Diode
GateName_1: G$1; DeviceName: CB429-15; DeviceSetName: SCHOTTKY-DIODE; SymbolName_1: SCHOTTKY; LibraryName: adafruit; Package: CB429-15
footprint CB429-15
pins: A, C

## SCHOTTKY-DIODECB429-17
designator D?, comment Schottky Diode
GateName_1: G$1; DeviceName: CB429-17; DeviceSetName: SCHOTTKY-DIODE; SymbolName_1: SCHOTTKY; LibraryName: adafruit; Package: CB429-17
footprint CB429-17
pins: A, C

## SCHOTTKY-DIODEDO13M
designator D?, comment Schottky Diode
GateName_1: G$1; DeviceName: DO13M; DeviceSetName: SCHOTTKY-DIODE; SymbolName_1: SCHOTTKY; LibraryName: adafruit; Package: DO13M
footprint DO13M
pins: A, C

## SCHOTTKY-DIODEDO35-7
designator D?, comment Schottky Diode
GateName_1: G$1; DeviceName: DO35-7; DeviceSetName: SCHOTTKY-DIODE; SymbolName_1: SCHOTTKY; LibraryName: adafruit; Package: DO35-7
footprint DO35-7
pins: A, C

## SCHOTTKY-DIODEDO41
designator D?, comment Schottky Diode
GateName_1: G$1; DeviceName: DO41; DeviceSetName: SCHOTTKY-DIODE; SymbolName_1: SCHOTTKY; LibraryName: adafruit; Package: DO41-10
footprint DO41-10
pins: A, C

## SCHOTTKY-DIODEDO41-7
designator D?, comment Schottky Diode
GateName_1: G$1; DeviceName: DO41-7; DeviceSetName: SCHOTTKY-DIODE; SymbolName_1: SCHOTTKY; LibraryName: adafruit; Package: DO41-7
footprint DO41-7
pins: A, C

## SCHOTTKY-DIODEDO201T15
designator D?, comment Schottky Diode
GateName_1: G$1; DeviceName: DO201T15; DeviceSetName: SCHOTTKY-DIODE; SymbolName_1: SCHOTTKY; LibraryName: adafruit; Package: DO201T15
footprint DO201T15
pins: A, C

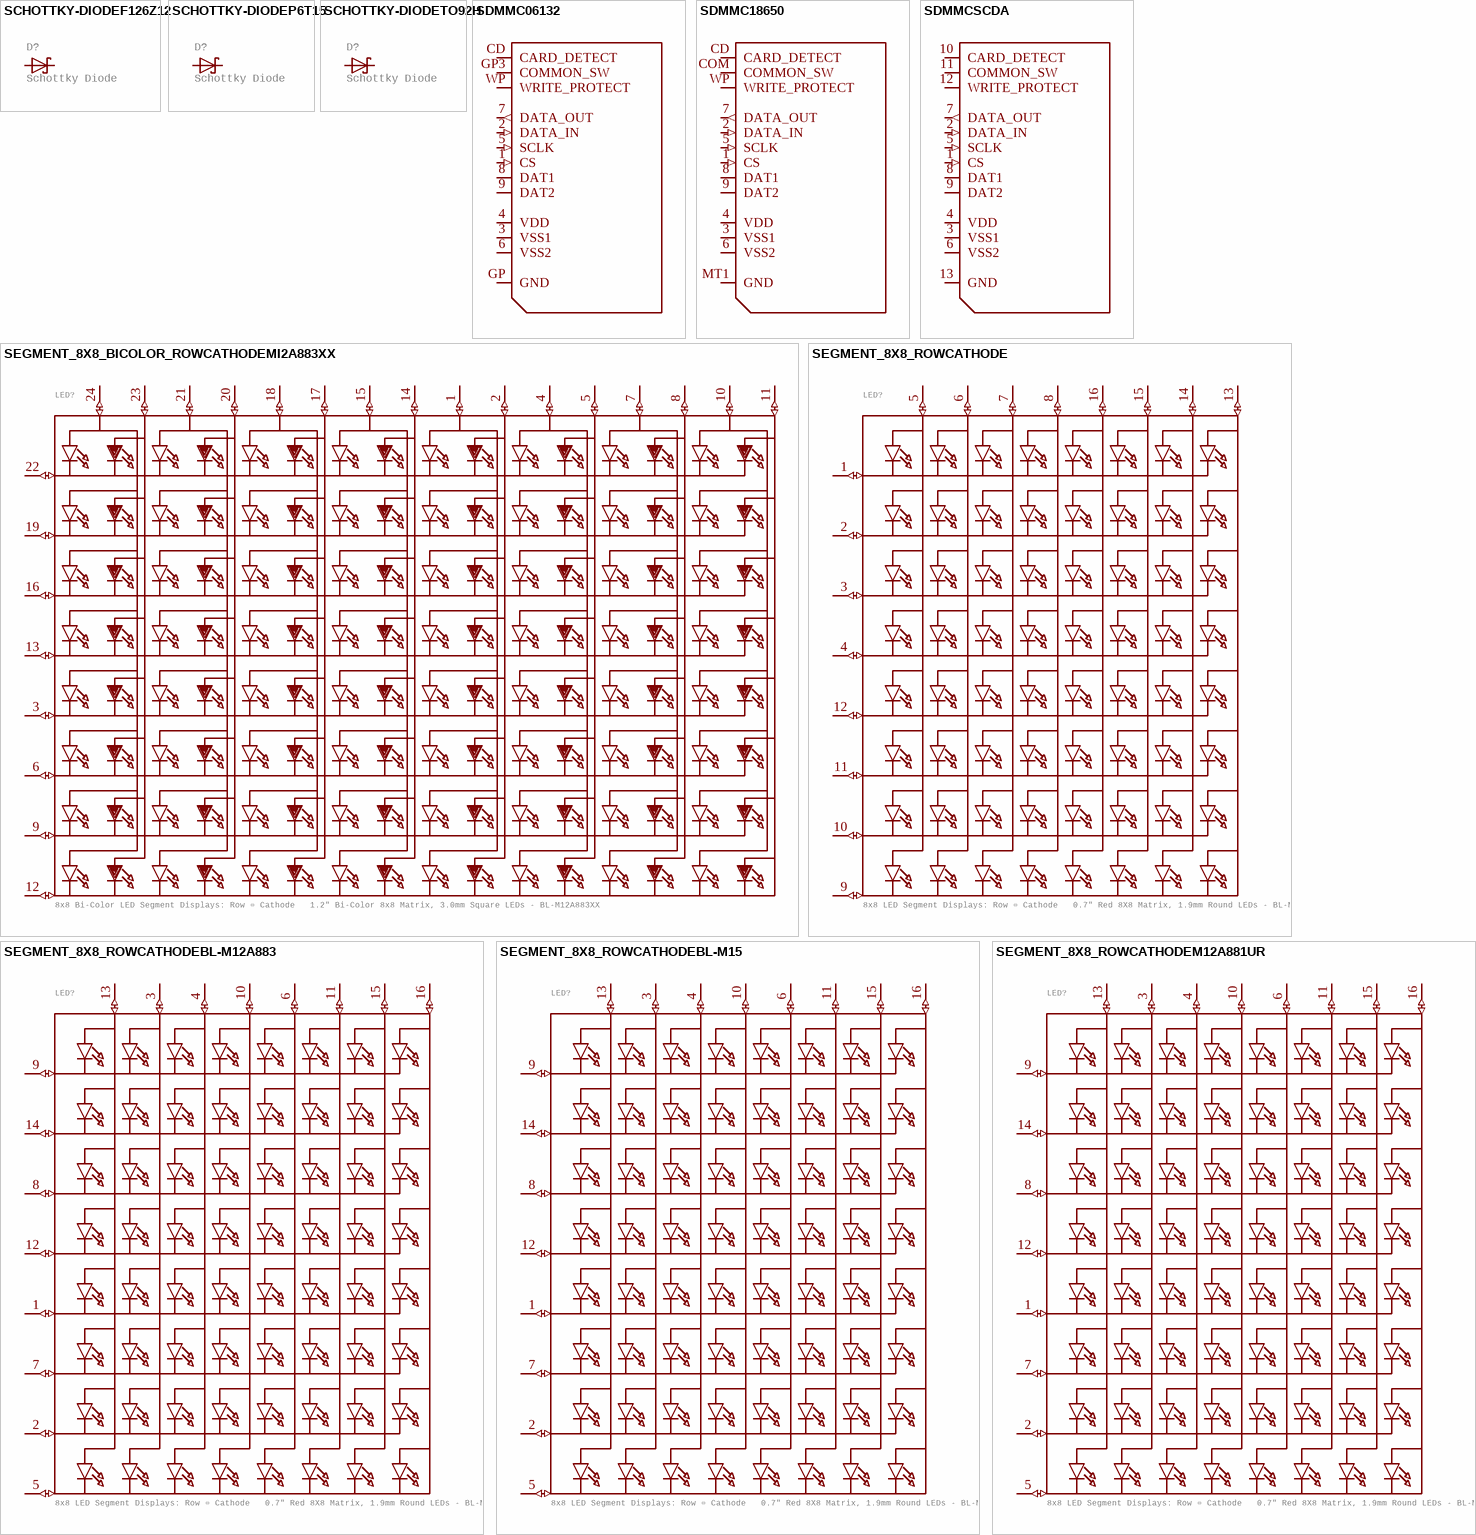
[diagram p24: symbols SCHOTTKY-DIODEF126Z12 to SEGMENT_8X8_ROWCATHODEM12A881UR]

## SCHOTTKY-DIODEF126Z12
designator D?, comment Schottky Diode
GateName_1: G$1; DeviceName: F126Z12; DeviceSetName: SCHOTTKY-DIODE; SymbolName_1: SCHOTTKY; LibraryName: adafruit; Package: F126Z12
footprint F126Z12
pins: A, C

## SCHOTTKY-DIODEP6T15
designator D?, comment Schottky Diode
GateName_1: G$1; DeviceName: P6T15; DeviceSetName: SCHOTTKY-DIODE; SymbolName_1: SCHOTTKY; LibraryName: adafruit; Package: P6T15
footprint P6T15
pins: A, C

## SCHOTTKY-DIODETO92H
designator D?, comment Schottky Diode
GateName_1: G$1; DeviceName: TO92H; DeviceSetName: SCHOTTKY-DIODE; SymbolName_1: SCHOTTKY; LibraryName: adafruit; Package: TO92H
footprint TO92H
pins: 1 A, 2 C

## SDMMC06132
designator ?, comment SD MMC Card holder   4UCON part #06132 - easy to solder  (value not drawn)
GateName_1: G$1; SymbolName_1: SD-MMC; DeviceName: 06132; DeviceSetName: SDMMC; LibraryName: adafruit; Package: 06132
footprint 06132
pins: 1 CS (in), 2 DATA_IN (in), 3 VSS1 (power), 4 VDD (power), 5 SCLK (in), 6 VSS2 (power), 7 DATA_OUT (out), 8 DAT1 (io), 9 DAT2 (io), CD CARD_DETECT, GP GND (power), GP3 COMMON_SW, WP WRITE_PROTECT

## SDMMC18650
designator ?, comment SD MMC Card holder   4UCON part #06132 - easy to solder  (value not drawn)
GateName_1: G$1; SymbolName_1: SD-MMC; DeviceName: 18650; DeviceSetName: SDMMC; LibraryName: adafruit; Package: SDCARD
footprint SDCARD
pins: 1 CS (in), 2 DATA_IN (in), 3 VSS1 (power), 4 VDD (power), 5 SCLK (in), 6 VSS2 (power), 7 DATA_OUT (out), 8 DAT1 (io), 9 DAT2 (io), CD CARD_DETECT, COM COMMON_SW, MT1 GND (power), WP WRITE_PROTECT

## SDMMCSCDA
designator ?, comment SD MMC Card holder   4UCON part #06132 - easy to solder  (value not drawn)
GateName_1: G$1; SymbolName_1: SD-MMC; DeviceName: SCDA; DeviceSetName: SDMMC; LibraryName: adafruit; Package: SCDA
footprint SCDA
pins: 1 CS (in), 2 DATA_IN (in), 3 VSS1 (power), 4 VDD (power), 5 SCLK (in), 6 VSS2 (power), 7 DATA_OUT (out), 8 DAT1 (io), 9 DAT2 (io), 10 CARD_DETECT, 11 COMMON_SW, 12 WRITE_PROTECT, 13 GND (power)

## SEGMENT_8X8_BICOLOR_ROWCATHODEMI2A883XX
designator LED?, comment 8x8 Bi-Color LED Segment Displays: Row = Cathode   1.2" Bi-Color 8x8 Matrix, 3.0mm Square LEDs - BL-M12A883XX
GateName_1: G$1; SymbolName_1: SEGMENT_8X8_BICOLOR_CATHODEROW; DeviceName: MI2A883XX; DeviceSetName: SEGMENT_8X8_BICOLOR_ROWCATHODE; LibraryName: adafruit; Package: SEGMENT_BICOL_BL-M12A883XX
footprint SEGMENT_BICOL_BL-M12A883XX
pins: 1 A9 (io), 2 A10 (io), 3 K5 (io), 4 A11 (io), 5 A12 (io), 6 K6 (io), 7 A13 (io), 8 A14 (io), 9 K7 (io), 10 A15 (io), 11 A16 (io), 12 K8 (io), 13 K4 (io), 14 A8 (io), 15 A7 (io), 16 K3 (io), 17 A6 (io), 18 A5 (io), 19 K2 (io), 20 A4 (io), 21 A3 (io), 22 K1 (io), 23 A2 (io), 24 A1 (io)

## SEGMENT_8X8_ROWCATHODE
designator LED?, comment 8x8 LED Segment Displays: Row = Cathode   0.7" Red 8X8 Matrix, 1.9mm Round LEDs - BL-M07C881UR   1.2" Red 8x8 Matrix, 3.0mm Round LEDs - BL-M12A881UR   1.2" Red 8x8 Matrix, 3.0mm Square LEDs - BL-M12A883
GateName_1: G$1; SymbolName_1: SEGMENT_8X8_CATHODEROW; DeviceSetName: SEGMENT_8X8_ROWCATHODE; LibraryName: adafruit; Package: SEGMENT_BL-M07C881UR
footprint SEGMENT_BL-M07C881UR
pins: 1 K1 (io), 2 K2 (io), 3 K3 (io), 4 K4 (io), 5 A1 (io), 6 A2 (io), 7 A3 (io), 8 A4 (io), 9 K8 (io), 10 K7 (io), 11 K6 (io), 12 K5 (io), 13 A8 (io), 14 A7 (io), 15 A6 (io), 16 A5 (io)

## SEGMENT_8X8_ROWCATHODEBL-M12A883
designator LED?, comment 8x8 LED Segment Displays: Row = Cathode   0.7" Red 8X8 Matrix, 1.9mm Round LEDs - BL-M07C881UR   1.2" Red 8x8 Matrix, 3.0mm Round LEDs - BL-M12A881UR   1.2" Red 8x8 Matrix, 3.0mm Square LEDs - BL-M12A883
GateName_1: G$1; SymbolName_1: SEGMENT_8X8_CATHODEROW; DeviceSetName: SEGMENT_8X8_ROWCATHODE; DeviceName: BL-M12A883; LibraryName: adafruit; Package: SEGMENT_BL-M12A883
footprint SEGMENT_BL-M12A883
pins: 1 K5 (io), 2 K7 (io), 3 A2 (io), 4 A3 (io), 5 K8 (io), 6 A5 (io), 7 K6 (io), 8 K3 (io), 9 K1 (io), 10 A4 (io), 11 A6 (io), 12 K4 (io), 13 A1 (io), 14 K2 (io), 15 A7 (io), 16 A8 (io)

## SEGMENT_8X8_ROWCATHODEBL-M15
designator LED?, comment 8x8 LED Segment Displays: Row = Cathode   0.7" Red 8X8 Matrix, 1.9mm Round LEDs - BL-M07C881UR   1.2" Red 8x8 Matrix, 3.0mm Round LEDs - BL-M12A881UR   1.2" Red 8x8 Matrix, 3.0mm Square LEDs - BL-M12A883
GateName_1: G$1; SymbolName_1: SEGMENT_8X8_CATHODEROW; DeviceName: BL-M15; DeviceSetName: SEGMENT_8X8_ROWCATHODE; LibraryName: adafruit; Package: SEGMENT_BL-M15A881
footprint SEGMENT_BL-M15A881
pins: 1 K5 (io), 2 K7 (io), 3 A2 (io), 4 A3 (io), 5 K8 (io), 6 A5 (io), 7 K6 (io), 8 K3 (io), 9 K1 (io), 10 A4 (io), 11 A6 (io), 12 K4 (io), 13 A1 (io), 14 K2 (io), 15 A7 (io), 16 A8 (io)

## SEGMENT_8X8_ROWCATHODEM12A881UR
designator LED?, comment 8x8 LED Segment Displays: Row = Cathode   0.7" Red 8X8 Matrix, 1.9mm Round LEDs - BL-M07C881UR   1.2" Red 8x8 Matrix, 3.0mm Round LEDs - BL-M12A881UR   1.2" Red 8x8 Matrix, 3.0mm Square LEDs - BL-M12A883
GateName_1: G$1; SymbolName_1: SEGMENT_8X8_CATHODEROW; DeviceSetName: SEGMENT_8X8_ROWCATHODE; DeviceName: M12A881UR; LibraryName: adafruit; Package: SEGMENT_BL-M12A881UR
footprint SEGMENT_BL-M12A881UR
pins: 1 K5 (io), 2 K7 (io), 3 A2 (io), 4 A3 (io), 5 K8 (io), 6 A5 (io), 7 K6 (io), 8 K3 (io), 9 K1 (io), 10 A4 (io), 11 A6 (io), 12 K4 (io), 13 A1 (io), 14 K2 (io), 15 A7 (io), 16 A8 (io)

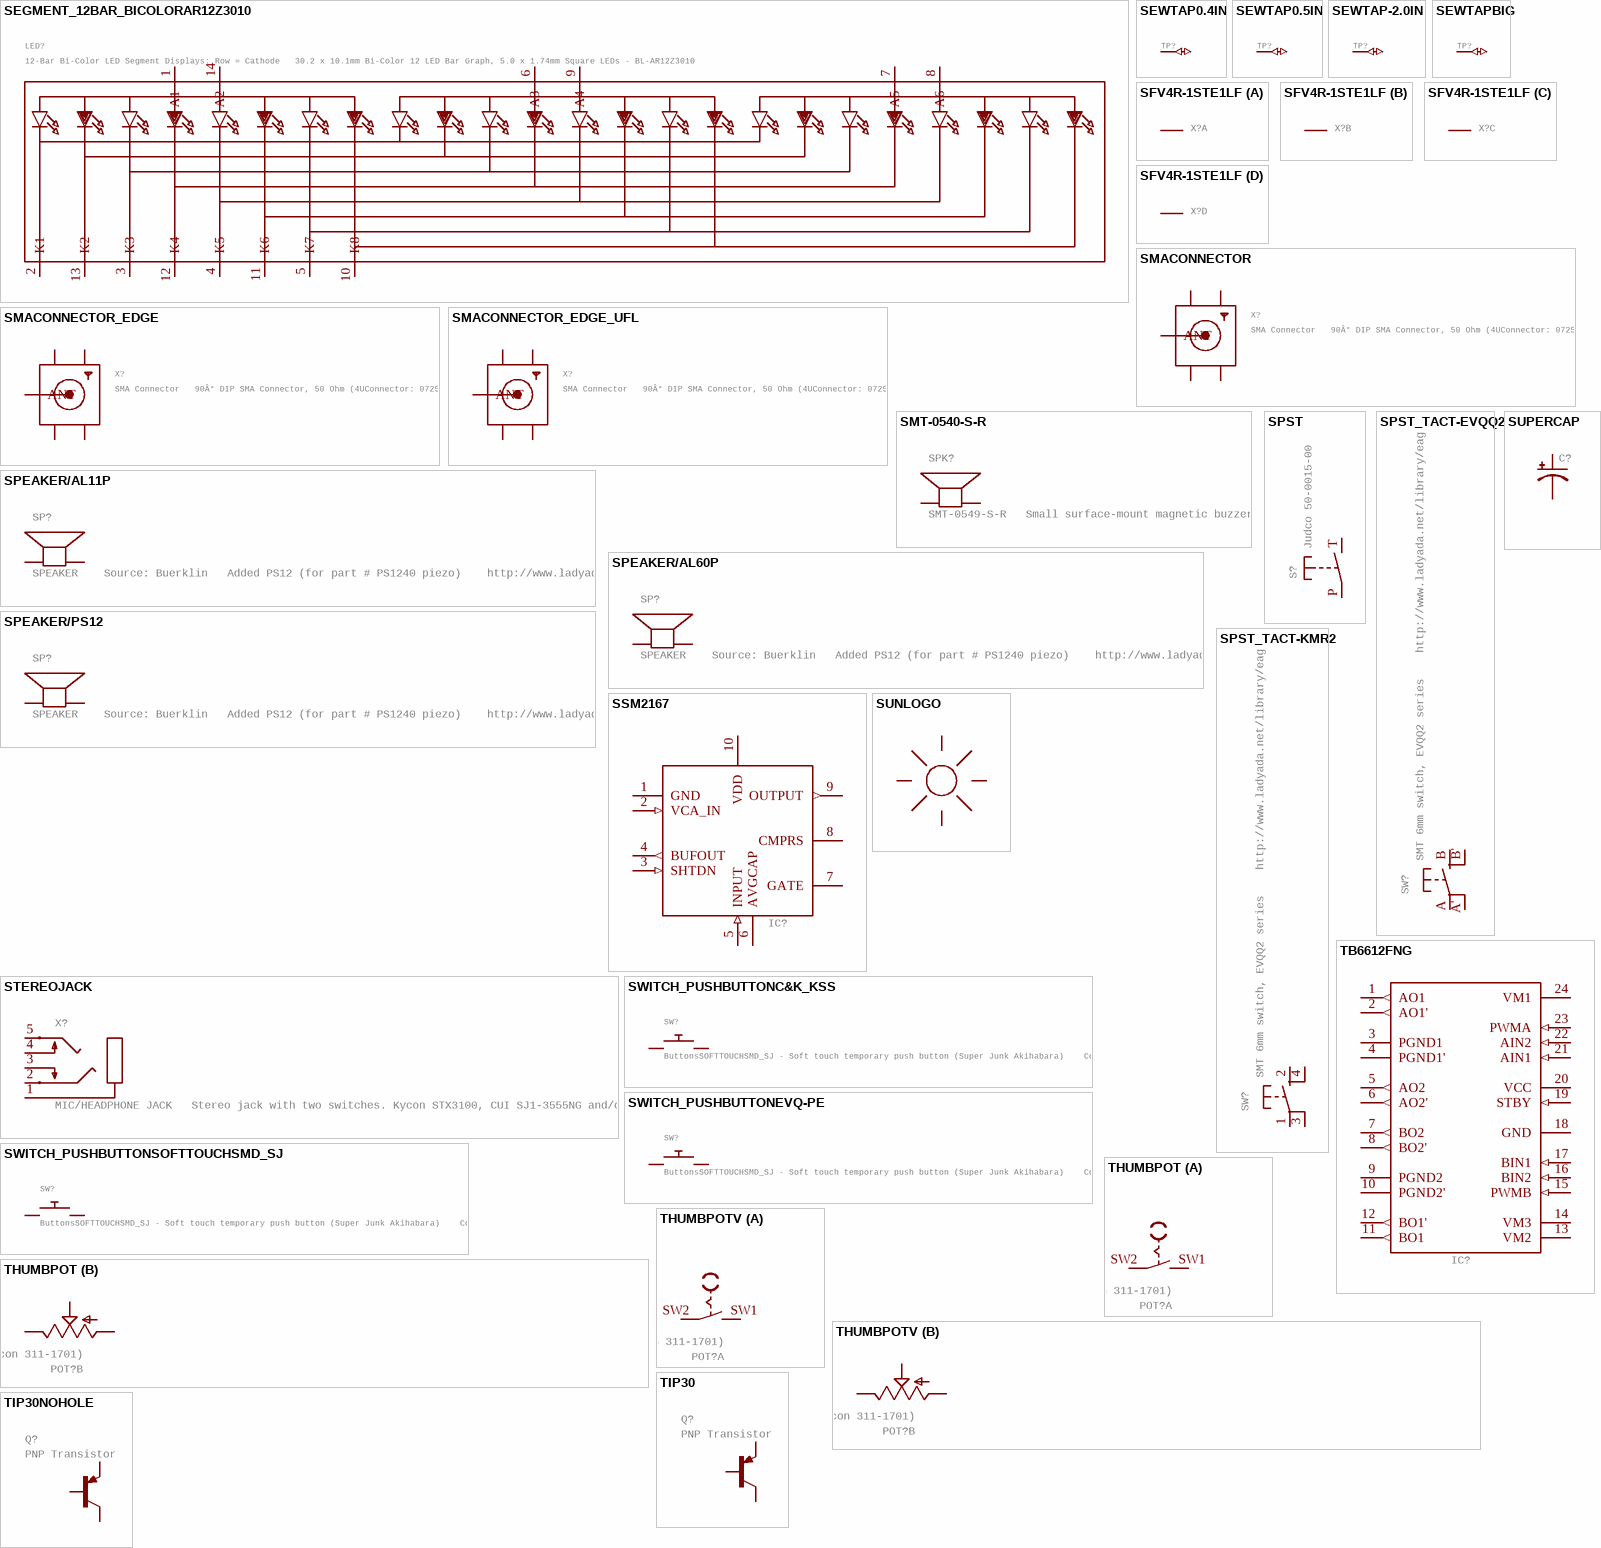
[diagram p25: symbols SEGMENT_12BAR_BICOLORAR12Z3010 to TIP30NOHOLE]

## SEGMENT_12BAR_BICOLORAR12Z3010
designator LED?, comment 12-Bar Bi-Color LED Segment Displays: Row = Cathode   30.2 x 10.1mm Bi-Color 12 LED Bar Graph, 5.0 x 1.74mm Square LEDs - BL-AR12Z3010
GateName_1: G$1; SymbolName_1: SEGMENT_12BAR_BICOLOR_CATHODEROW; DeviceSetName: SEGMENT_12BAR_BICOLOR; DeviceName: AR12Z3010; LibraryName: adafruit; Package: SEGMENT_BICOL_BL-AR12Z3010
footprint SEGMENT_BICOL_BL-AR12Z3010
pins: 1 A1 (io), 2 K1 (io), 3 K3 (io), 4 K5 (io), 5 K7 (io), 6 A3 (io), 7 A5 (io), 8 A6 (io), 9 A4 (io), 10 K8 (io), 11 K6 (io), 12 K4 (io), 13 K2 (io), 14 A2 (io)

## SEWTAP0.4IN
designator TP?
GateName_1: G$1; SymbolName_1: SEWTAP; DeviceName: 0.4IN; LibraryName: adafruit; DeviceSetName: SEWTAP; Package: SEWINGTAP_0.4
footprint SEWINGTAP_0.4
pins: TAP SEW (io)

## SEWTAP0.5IN
designator TP?
GateName_1: G$1; SymbolName_1: SEWTAP; DeviceName: 0.5IN; LibraryName: adafruit; DeviceSetName: SEWTAP; Package: SEWINGTAP_0.5
footprint SEWINGTAP_0.5
pins: TAP SEW (io)

## SEWTAP-2.0IN
designator TP?
GateName_1: G$1; SymbolName_1: SEWTAP; DeviceName: -2.0IN; LibraryName: adafruit; DeviceSetName: SEWTAP; Package: SEWINGTAP_2.0
footprint SEWINGTAP_2.0
pins: P$1 SEW (io)

## SEWTAPBIG
designator TP?
GateName_1: G$1; SymbolName_1: SEWTAP; DeviceName: BIG; LibraryName: adafruit; DeviceSetName: SEWTAP; Package: BIGTAP
footprint BIGTAP
pins: P$1 SEW (io)

## SFV4R-1STE1LF
designator X?, comment FPC Connector ZIF for SMT 0.5mm   SFV4R-1STE1LF Useful as the LED backlight connector for a PSP display  (value not drawn)
GateName_1: -1; SymbolName_1: MV; GateName_2: -2; SymbolName_2: M; GateName_3: -3; GateName_4: -4; SymbolName_3: M; SymbolName_4: M; LibraryName: adafruit; DeviceSetName: SFV4R-1STE1LF; Package: SFV4R-1STE1LF
footprint SFV4R-1STE1LF
part A pins: 1 S
part B pins: 2 S
part C pins: 3 S
part D pins: 4 S

## SMACONNECTOR
designator X?, comment SMA Connector   90Â° DIP SMA Connector, 50 Ohm (4UConnector: 07259)
GateName_1: G$1; SymbolName_1: SMACONNECTOR; LibraryName: adafruit; DeviceSetName: SMACONNECTOR; Package: SMA90_DIP
footprint SMA90_DIP
pins: ANTENNA ANT (io), GND1 (power), GND2 (power), GND3 (power), GND4 (power)

## SMACONNECTOR_EDGE
designator X?, comment SMA Connector   90Â° DIP SMA Connector, 50 Ohm (4UConnector: 07259)
GateName_1: G$1; DeviceName: _EDGE; SymbolName_1: SMACONNECTOR; LibraryName: adafruit; DeviceSetName: SMACONNECTOR; Package: SMA_EDGELAUNCH
footprint SMA_EDGELAUNCH
pins: GND@1 GND4 (power), GND@2 GND3 (power), GND@3 GND2 (power), GND@4 GND1 (power), P ANT (io)

## SMACONNECTOR_EDGE_UFL
designator X?, comment SMA Connector   90Â° DIP SMA Connector, 50 Ohm (4UConnector: 07259)
GateName_1: G$1; DeviceName: _EDGE_UFL; SymbolName_1: SMACONNECTOR; LibraryName: adafruit; DeviceSetName: SMACONNECTOR; Package: SMA_EDGELAUNCH_UFL
footprint SMA_EDGELAUNCH_UFL
pins: GND@1 GND1 (power), GND@2 GND2 (power), GND@3 GND3 (power), GND@4 GND4 (power), P ANT (io)

## SMT-0540-S-R
designator SPK?, comment SMT-0549-S-R   Small surface-mount magnetic buzzer
GateName_1: G$1; SymbolName_1: SP; DeviceSetName: SMT-0540-S-R; LibraryName: adafruit; Package: SMT-0540-S-R
footprint SMT-0540-S-R
pins: + -, - +

## SPEAKER/AL11P
designator SP?, comment SPEAKER    Source: Buerklin   Added PS12 (for part # PS1240 piezo)    http://www.ladyada.net/library/pcb/eaglelibrary.html
GateName_1: S1; SymbolName_1: SP; DeviceName: /AL11P; LibraryName: adafruit; DeviceSetName: SPEAKER; Package: AL11P
footprint AL11P
pins: +, -

## SPEAKER/AL60P
designator SP?, comment SPEAKER    Source: Buerklin   Added PS12 (for part # PS1240 piezo)    http://www.ladyada.net/library/pcb/eaglelibrary.html
GateName_1: S1; SymbolName_1: SP; DeviceName: /AL60P; LibraryName: adafruit; DeviceSetName: SPEAKER; Package: AL60P
footprint AL60P
pins: 1 +, 2 -

## SPEAKER/PS12
designator SP?, comment SPEAKER    Source: Buerklin   Added PS12 (for part # PS1240 piezo)    http://www.ladyada.net/library/pcb/eaglelibrary.html
GateName_1: S1; SymbolName_1: SP; DeviceName: /PS12; LibraryName: adafruit; DeviceSetName: SPEAKER; Package: PS12
footprint PS12
pins: P$1 +, P$2 -

## SPST
designator S?, comment Judco 50-0015-00
GateName_1: G$1; SymbolName_1: SPST; LibraryName: adafruit; DeviceSetName: SPST; Package: JUDCOSPST
footprint JUDCOSPST
pins: P, T S

## SPST_TACT-EVQQ2
designator SW?, comment SMT 6mm switch, EVQQ2 series    http://www.ladyada.net/library/eagle
GateName_1: G$1; SymbolName_1: TS2; DeviceName: -EVQQ2; DeviceSetName: SPST_TACT; LibraryName: adafruit; Package: EVQ-Q2
footprint EVQ-Q2
pins: A P, A' P1, B S, B' S1

## SPST_TACT-KMR2
designator SW?, comment SMT 6mm switch, EVQQ2 series    http://www.ladyada.net/library/eagle
GateName_1: G$1; SymbolName_1: TS2; DeviceName: -KMR2; DeviceSetName: SPST_TACT; LibraryName: adafruit; Package: KMR2
footprint KMR2
pins: 1 P, 2 S, 3 P1, 4 S1

## SSM2167
designator IC?, comment SSM2167   Microphone conditioner chip  (value not drawn)
GateName_1: G$1; SymbolName_1: SSM2167; LibraryName: adafruit; DeviceSetName: SSM2167; Package: MSOP10
footprint MSOP10
pins: 1 GND (power), 2 VCA_IN (in), 3 SHTDN (in), 4 BUFOUT (out), 5 INPUT (in), 6 AVGCAP, 7 GATE, 8 CMPRS, 9 OUTPUT (out), 10 VDD (power)

## STEREOJACK
designator X?, comment MIC/HEADPHONE JACK   Stereo jack with two switches. Kycon STX3100, CUI SJ1-3555NG and/or 4UCon 05544
GateName_1: 1; SymbolName_1: KS-S; LibraryName: adafruit; DeviceSetName: STEREOJACK; Package: STX3100
footprint STX3100
pins: 1, 2, 3, 4, 5

## SUNLOGO
designator ?, comment Just a SMT logo of a sun. cute!  (value not drawn)
GateName_1: G$1; SymbolName_1: SUNLOGO; LibraryName: adafruit; DeviceSetName: SUNLOGO; Package: SUN
footprint SUN

## SUPERCAP
designator C?
GateName_1: G$1; SymbolName_1: CPOL-US; DeviceSetName: SUPERCAP; LibraryName: adafruit; Package: 414-VA5R
footprint 414-VA5R
pins: +, -

## SWITCH_PUSHBUTTONC&K_KSS
designator SW?, comment ButtonsSOFTTOUCHSMD_SJ - Soft touch temporary push button (Super Junk Akihabara)    Compatible with SKPMANE010 [Mouser: 688-SKPMAN]   C&K_KSS = Digikey: KSS221GLFS
GateName_1: G$1; DeviceSetName: SWITCH_PUSHBUTTON; SymbolName_1: PUSHBUTTON; DeviceName: C&K_KSS; LibraryName: adafruit; Package: BTN_CK_KSS
footprint BTN_CK_KSS
pins: P$1, P$2

## SWITCH_PUSHBUTTONEVQ-PE
designator SW?, comment ButtonsSOFTTOUCHSMD_SJ - Soft touch temporary push button (Super Junk Akihabara)    Compatible with SKPMANE010 [Mouser: 688-SKPMAN]   C&K_KSS = Digikey: KSS221GLFS
GateName_1: G$1; DeviceName: EVQ-PE; DeviceSetName: SWITCH_PUSHBUTTON; SymbolName_1: PUSHBUTTON; LibraryName: adafruit; Package: TACT_PANA-EVQ
footprint TACT_PANA-EVQ
pins: P$1, P$2

## SWITCH_PUSHBUTTONSOFTTOUCHSMD_SJ
designator SW?, comment ButtonsSOFTTOUCHSMD_SJ - Soft touch temporary push button (Super Junk Akihabara)    Compatible with SKPMANE010 [Mouser: 688-SKPMAN]   C&K_KSS = Digikey: KSS221GLFS
GateName_1: G$1; DeviceSetName: SWITCH_PUSHBUTTON; SymbolName_1: PUSHBUTTON; DeviceName: SOFTTOUCHSMD_SJ; LibraryName: adafruit; Package: PUSHBUTTON_SMD_SJ
footprint PUSHBUTTON_SMD_SJ
pins: P$1, P$2

## TB6612FNG
designator IC?, comment TB6612FNG   MOS dual H-bridge motor driver, 1.2A current 3.2A peak 3 or 5v logic and 3-15v motor  (value not drawn)
GateName_1: G$1; SymbolName_1: TB6612FNG; LibraryName: adafruit; DeviceSetName: TB6612FNG; Package: SSOP24
footprint SSOP24
pins: 1 AO1 (out), 2 AO1' (out), 3 PGND1 (power), 4 PGND1' (power), 5 AO2 (out), 6 AO2' (out), 7 BO2 (out), 8 BO2' (out), 9 PGND2 (power), 10 PGND2' (power), 11 BO1 (out), 12 BO1' (out), 13 VM2 (power), 14 VM3 (power), 15 PWMB (in), 16 BIN2 (in), 17 BIN1 (in), 18 GND (power), 19 STBY (in), 20 VCC (power), 21 AIN1 (in), 22 AIN2 (in), 23 PWMA (in), 24 VM1 (power)

## THUMBPOT
designator POT?, comment Thumbwheel pot with switch   Available in horizontal (Alpha RV121SF) or vertical (Xicon 311-1701)
GateName_1: SW; DeviceSetName: THUMBPOT; SymbolName_1: SW; GateName_2: POT; SymbolName_2: POT; LibraryName: adafruit; Package: THUMBWHEEL
footprint THUMBWHEEL
part A pins: SW1 S, SW2 P
part B pins: 1 A, 2 S, 3 E

## THUMBPOTV
designator POT?, comment Thumbwheel pot with switch   Available in horizontal (Alpha RV121SF) or vertical (Xicon 311-1701)
GateName_1: SW; DeviceName: V; DeviceSetName: THUMBPOT; SymbolName_1: SW; GateName_2: POT; SymbolName_2: POT; LibraryName: adafruit; Package: THUMBWHEELV
footprint THUMBWHEELV
part A pins: SW1 S, SW2 P
part B pins: A, E, S

## TIP30
designator Q?, comment PNP Transistor
GateName_1: G$1; DeviceSetName: TIP30; SymbolName_1: PNP; LibraryName: adafruit; Package: TO220
footprint TO220
pins: 1 B, 2 C, 3 E

## TIP30NOHOLE
designator Q?, comment PNP Transistor
GateName_1: G$1; DeviceName: NOHOLE; DeviceSetName: TIP30; SymbolName_1: PNP; LibraryName: adafruit; Package: TO220-NOHOLE
footprint TO220-NOHOLE
pins: 1 B, 2 C, 3 E

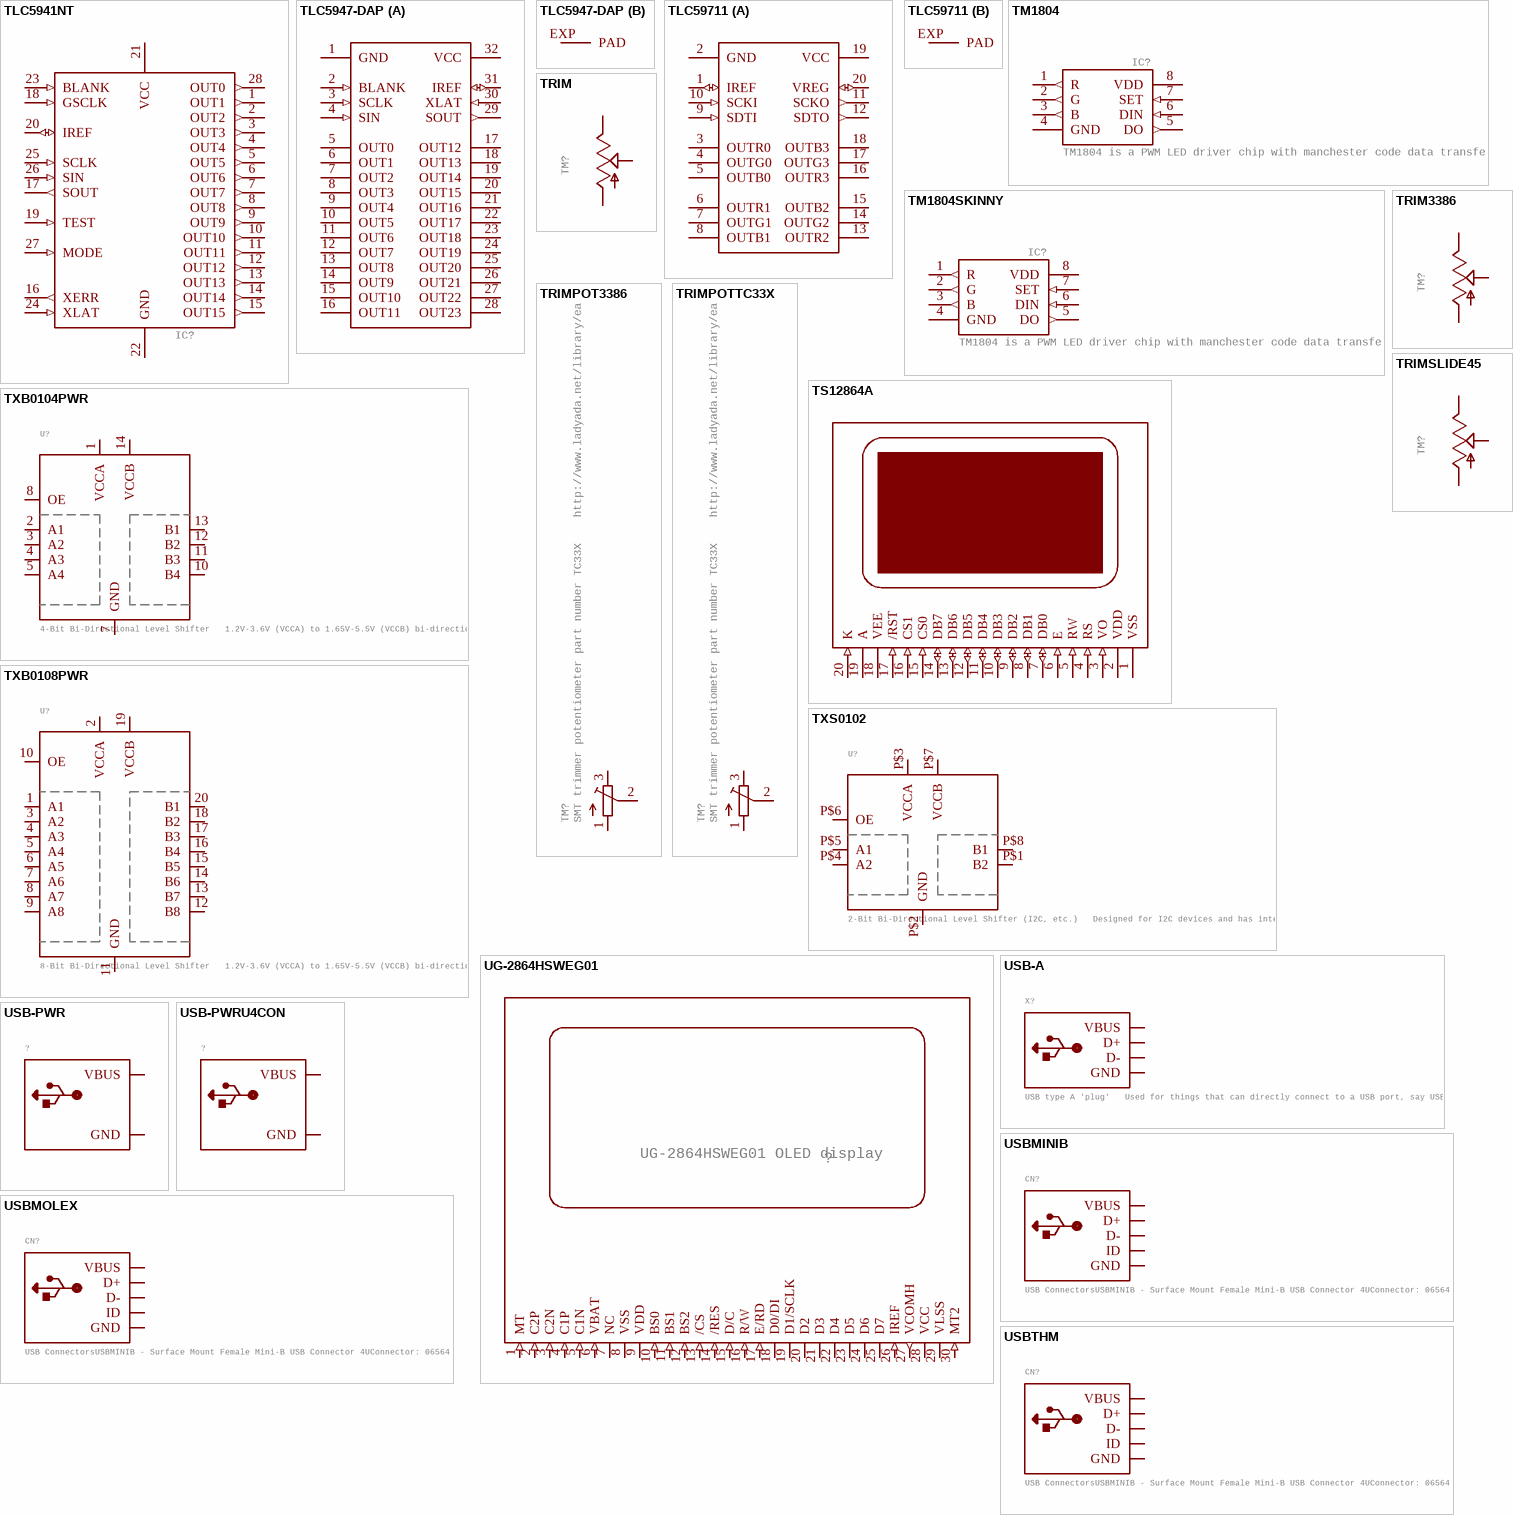
[diagram p26: symbols TLC5941NT to USBTHM]

## TLC5941NT
designator IC?
GateName_1: G$1; SymbolName_1: TLC5941; DeviceName: NT; LibraryName: adafruit; DeviceSetName: TLC5941; Package: DIL28-3
footprint DIL28-3
pins: 1 OUT1 (out), 2 OUT2 (out), 3 OUT3 (out), 4 OUT4 (out), 5 OUT5 (out), 6 OUT6 (out), 7 OUT7 (out), 8 OUT8 (out), 9 OUT9 (out), 10 OUT10 (out), 11 OUT11 (out), 12 OUT12 (out), 13 OUT13 (out), 14 OUT14 (out), 15 OUT15 (out), 16 XERR (out), 17 SOUT (out), 18 GSCLK (in), 19 TEST (in), 20 IREF (io), 21 VCC (power), 22 GND (power), 23 BLANK (in), 24 XLAT (in), 25 SCLK (in), 26 SIN (in), 27 MODE (in), 28 OUT0 (out)

## TLC5947-DAP
designator IC?
GateName_1: G$1; SymbolName_1: TLC5947; GateName_2: G$2; SymbolName_2: THERMAL_PAD; DeviceName: -DAP; LibraryName: adafruit; DeviceSetName: TLC5947; Package: HTSSOP32DAP
footprint HTSSOP32DAP
part A pins: 1 GND (power), 2 BLANK (in), 3 SCLK (in), 4 SIN (in), 5 OUT0 (oc), 6 OUT1 (oc), 7 OUT2 (oc), 8 OUT3 (oc), 9 OUT4 (oc), 10 OUT5 (oc), 11 OUT6 (oc), 12 OUT7 (oc), 13 OUT8 (oc), 14 OUT9 (oc), 15 OUT10 (oc), 16 OUT11 (oc), 17 OUT12 (oc), 18 OUT13 (oc), 19 OUT14 (oc), 20 OUT15 (oc), 21 OUT16 (oc), 22 OUT17 (oc), 23 OUT18 (oc), 24 OUT19 (oc), 25 OUT20 (oc), 26 OUT21 (oc), 27 OUT22 (oc), 28 OUT23 (oc), 29 SOUT (out), 30 XLAT (in), 31 IREF (io), 32 VCC (power)
part B pins: EXP PAD

## TLC59711
designator IC?
GateName_1: G$1; SymbolName_1: TLC59711; GateName_2: G$2; SymbolName_2: THERMAL_PAD; LibraryName: adafruit; DeviceSetName: TLC59711; Package: HTSSOP20DAP
footprint HTSSOP20DAP
part A pins: 1 IREF (io), 2 GND (power), 3 OUTR0 (oc), 4 OUTG0 (oc), 5 OUTB0 (oc), 6 OUTR1 (oc), 7 OUTG1 (oc), 8 OUTB1 (oc), 9 SDTI (in), 10 SCKI (in), 11 SCKO (out), 12 SDTO (out), 13 OUTR2 (oc), 14 OUTG2 (oc), 15 OUTB2 (oc), 16 OUTR3 (oc), 17 OUTG3 (oc), 18 OUTB3 (oc), 19 VCC (power), 20 VREG (io)
part B pins: EXP PAD

## TM1804
designator IC?, comment TM1804 is a PWM LED driver chip with manchester code data transfer!
GateName_1: G$1; SymbolName_1: TM1804; LibraryName: adafruit; DeviceSetName: TM1804; Package: SO08
footprint SO08
pins: 1 R (out), 2 G (out), 3 B (out), 4 GND (power), 5 DO (out), 6 DIN (in), 7 SET (in), 8 VDD (power)

## TM1804SKINNY
designator IC?, comment TM1804 is a PWM LED driver chip with manchester code data transfer!
GateName_1: G$1; DeviceName: SKINNY; SymbolName_1: TM1804; LibraryName: adafruit; DeviceSetName: TM1804; Package: SO08-SKINNYPADS
footprint SO08-SKINNYPADS
pins: 1 R (out), 2 G (out), 3 B (out), 4 GND (power), 5 DO (out), 6 DIN (in), 7 SET (in), 8 VDD (power)

## TRIM
designator TM?
GateName_1: G$1; SymbolName_1: TRIM; LibraryName: adafruit; DeviceSetName: TRIM; Package: 6MM
footprint 6MM
pins: A, E, S

## TRIM3386
designator TM?
GateName_1: G$1; SymbolName_1: TRIM; DeviceName: 3386; LibraryName: adafruit; DeviceSetName: TRIM; Package: TRIM-3386
footprint TRIM-3386
pins: ?1 A, ?2 E, ?3 S

## TRIMPOT3386
designator TM?, comment SMT trimmer potentiometer part number TC33X    http://www.ladyada.net/library/eagle
GateName_1: G$1; SymbolName_1: TRIMPOT; DeviceName: 3386; LibraryName: adafruit; DeviceSetName: TRIMPOT; Package: TRIM-3386
footprint TRIM-3386
pins: 1 A, 2 S, 3 E

## TRIMPOTTC33X
designator TM?, comment SMT trimmer potentiometer part number TC33X    http://www.ladyada.net/library/eagle
GateName_1: G$1; SymbolName_1: TRIMPOT; DeviceName: TC33X; LibraryName: adafruit; DeviceSetName: TRIMPOT; Package: TC33X
footprint TC33X
pins: 1 A, 2 S, 3 E

## TRIMSLIDE45
designator TM?
GateName_1: G$1; SymbolName_1: TRIM; DeviceName: SLIDE45; LibraryName: adafruit; DeviceSetName: TRIM; Package: SLIDEPOT-45
footprint SLIDEPOT-45
pins: A, B S, C E